# Altium schematic symbol library M283.SCHLIB: 26 symbols
Pins are listed as number, name and electrical type; pins without a type are passive.

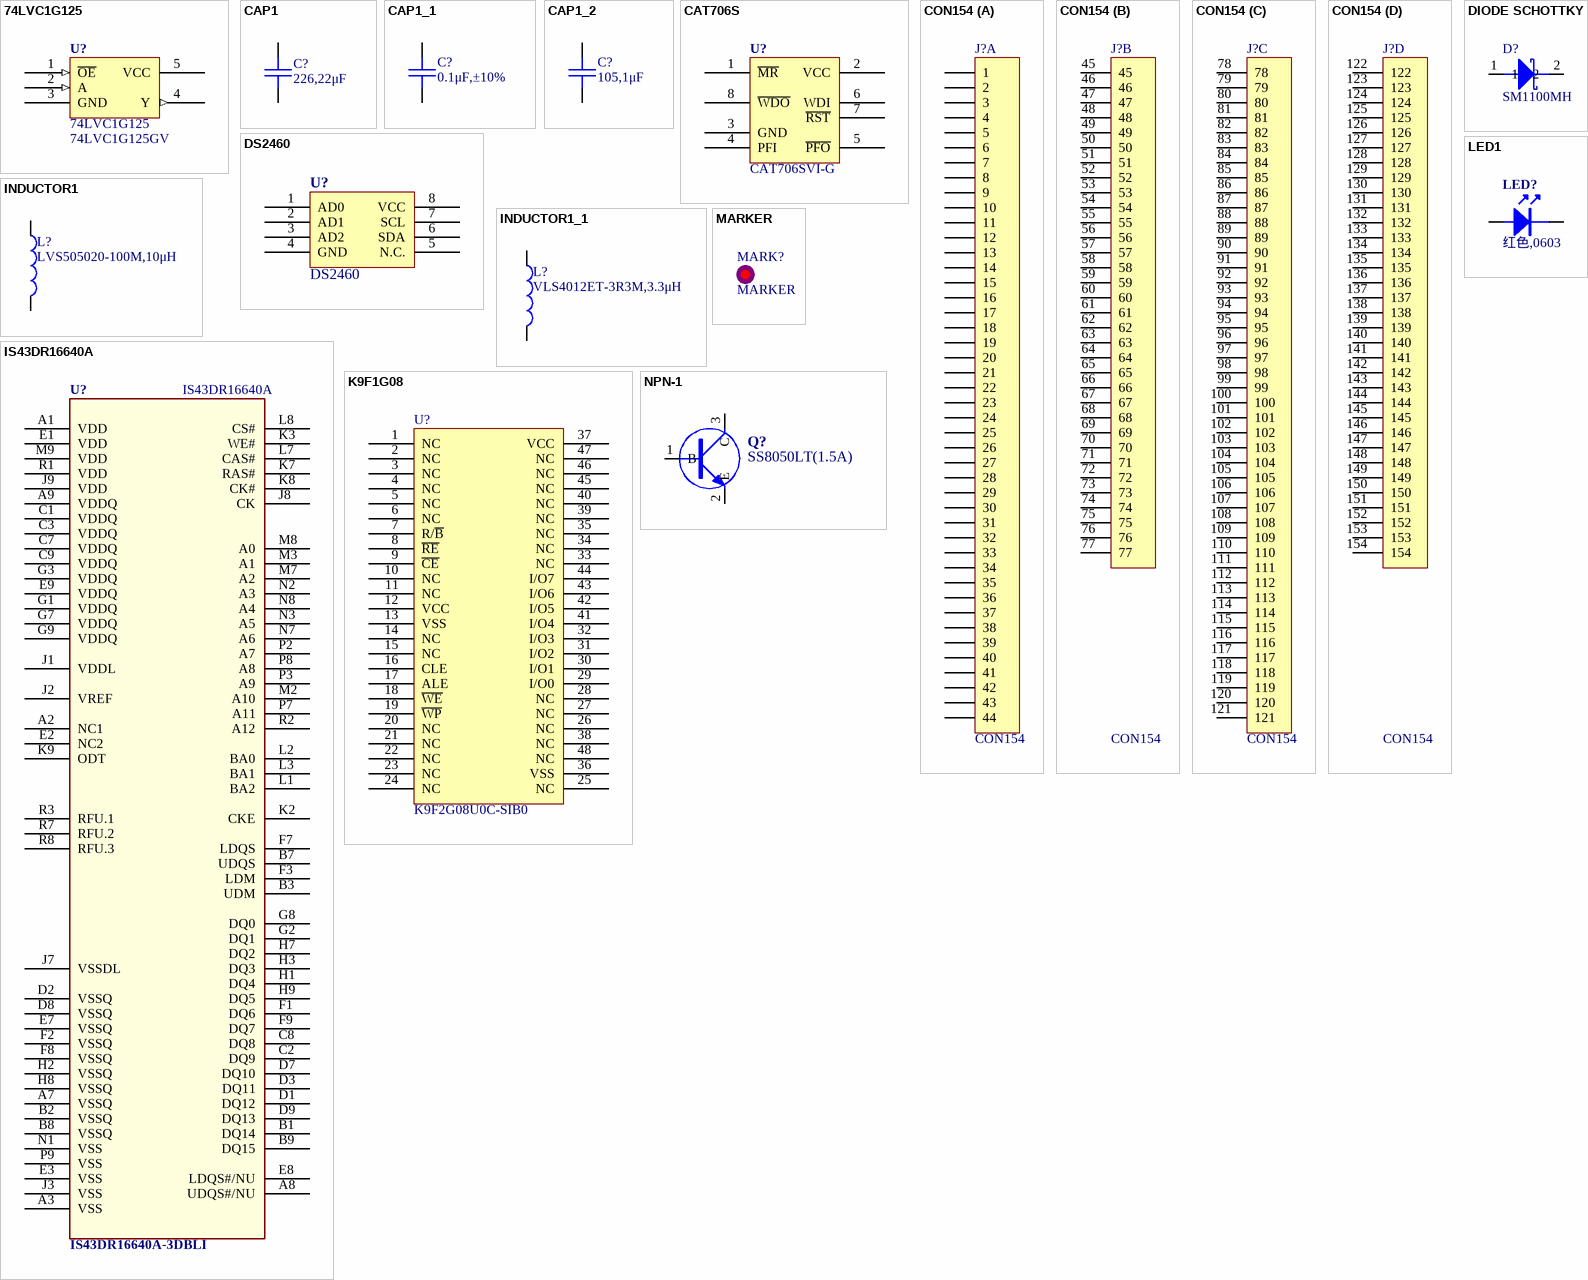
[diagram p0: symbols 74LVC1G125 to NPN-1]

## 74LVC1G125
designator U?  value 74LVC1G125GV
74LVC1G125GV,SOT-23,NXP,RoHS; 物料代码: 1.05.05.0117; 名称: IC; 设备封装名称: SOT-23-5_74LVC1G125GV; 贴片和直插: SMT; 封装: SOT-23; 厂商: NXP; RoHS: RoHS; 型号: 74LVC1G125GV; ComponentLink1Description: ErpDataInfo; ComponentLink1URL: http://erp.zlgmcu.com/ErpExt/ErpData/ListMateriel.aspx?pkey=1.05.05.0117
footprint SOT-23-5
pins: 1 ~{OE} (in), 2 A (in), 3 GND (power), 4 Y (out), 5 VCC
2 alternate drawings of the same symbol

## CAP1
designator C?, comment 226,22μF
226,22μF,±20%,6.3V,X5R,0805,RoHS; 物料代码: 1.02.02.0059; 名称: 电容; 封装: 0805; 设备封装名称: C0805_226_X5R_6.3V_20%; 贴片和直插: SMT; RoHS: RoHS; 型号: 226,22μF,±20%,6.3V,X5R; ComponentLink1Description: ErpDataInfo; ComponentLink1URL: http://erp.zlgmcu.com/ErpExt/ErpData/ListMateriel.aspx?pkey=1.02.02.0059; Value: 226,22μF
footprint 0805C
pins: 1, 2
2 alternate drawings of the same symbol

## CAP1_1
designator C?, comment 0.1μF,±10%
0.1μF,±10%,16V,X7R,0402,RoHS; 物料代码: 1.02.17.0006; 名称: 电容; 封装: 0402; 设备封装名称: C0402_0.1uF_X7R_16V_10%; 贴片和直插: SMT; RoHS: RoHS; 型号: 0.1μF,±10%,16V,X7R; ComponentLink1Description: ErpDataInfo; ComponentLink1URL: http://erp.zlgmcu.com/ErpExt/ErpData/ListMateriel.aspx?pkey=1.02.17.0006; Value: 0.1μF,±10%
footprint 0402C
pins: 1, 2
2 alternate drawings of the same symbol

## CAP1_2
designator C?, comment 105,1μF
105,1μF,±10%,16V,X7R,0603,*,RoHS; 物料代码: 1.02.01.0036; 名称: 电容; 封装: 0603; 设备封装名称: C0603_105_X7R_16V_10%; 贴片和直插: SMT; RoHS: RoHS; 型号: 105,1μF,±10%,16V,X7R; ComponentLink1Description: ErpDataInfo; ComponentLink1URL: http://erp.zlgmcu.com/ErpExt/ErpData/ListMateriel.aspx?pkey=1.02.01.0036; Value: 105,1μF
footprint 0603C
pins: 1, 2
2 alternate drawings of the same symbol

## CAT706S
designator U?  value CAT706SVI-G  (hidden comment: CAT706S)
CAT706SVI-G,SO-8,ON; 物料代码: 1.05.07.0027; 名称: IC; 设备封装名称: SO-8_CAT706SVI-G; 贴片和直插: SMT; 封装: SO-8; 厂商: ON; 型号: CAT706SVI-G; ComponentLink1Description: ErpDataInfo; ComponentLink1URL: http://erp.zlgmcu.com/ErpExt/ErpData/ListMateriel.aspx?pkey=1.05.07.0027
footprint SOIC127P600X175-8N
pins: 1 ~{MR}, 2 VCC, 3 GND, 4 PFI, 5 ~{PFO}, 6 WDI, 7 ~{RST}, 8 ~{WDO}
2 alternate drawings of the same symbol

## CON154
designator J?
Connector
footprint M283-154
part A pins: 1, 2, 3, 4, 5, 6, 7, 8, 9, 10, 11, 12, 13, 14, 15, 16, 17, 18, 19, 20, 21, 22, 23, 24, 25, 26, 27, 28, 29, 30, 31, 32, 33, 34, 35, 36, 37, 38, 39, 40, 41, 42, 43, 44
part B pins: 45, 46, 47, 48, 49, 50, 51, 52, 53, 54, 55, 56, 57, 58, 59, 60, 61, 62, 63, 64, 65, 66, 67, 68, 69, 70, 71, 72, 73, 74, 75, 76, 77
part C pins: 78, 79, 80, 81, 82, 83, 84, 85, 86, 87, 88, 89, 90, 91, 92, 93, 94, 95, 96, 97, 98, 99, 100, 101, 102, 103, 104, 105, 106, 107, 108, 109, 110, 111, 112, 113, 114, 115, 116, 117, 118, 119, 120, 121
part D pins: 122, 123, 124, 125, 126, 127, 128, 129, 130, 131, 132, 133, 134, 135, 136, 137, 138, 139, 140, 141, 142, 143, 144, 145, 146, 147, 148, 149, 150, 151, 152, 153, 154

## DIODE SCHOTTKY
designator D?  value SM1100MH  (hidden comment: DIODE SCHOTTKY)
SM1100MH,SOD-123,SECOS,RoHS; 物料代码: 1.04.07.0063; 名称: 肖特基二极管; 贴片和直插: SMT; 封装: SOD-123; 厂商: SECOS; RoHS: RoHS; 型号: SM1100MH; ComponentLink1Description: ErpDataInfo; ComponentLink1URL: http://erp.zlgmcu.com/ErpExt/ErpData/ListMateriel.aspx?pkey=1.04.07.0063
footprint SOD-123
pins: 1, 2

## DS2460
designator U?
DS2460,SO-8,Maxim,RoHS; 物料代码: 1.05.10.0117; 名称: IC; 设备封装名称: SO-8_DS2460; 贴片和直插: SMT; 封装: SO-8; 厂商: Maxim; RoHS: RoHS; 型号: DS2460; ComponentLink1Description: ErpDataInfo; ComponentLink1URL: http://erp.zlgmcu.com/ErpExt/ErpData/ListMateriel.aspx?pkey=1.05.10.0117; Value: DS2460
footprint SOIC127P600X175-8N
pins: 1 AD0, 2 AD1, 3 AD2, 4 GND, 5 N.C., 6 SDA, 7 SCL, 8 VCC
2 alternate drawings of the same symbol

## INDUCTOR1
designator L?  value LVS505020-100M,10μH  (hidden comment: INDUCTOR1)
LVS505020-100M,10μH,1.6A,SMD,奇力新,RoHS; 物料代码: 1.03.01.0159; 名称: 电感; 贴片和直插: SMT; 封装: SMD; 厂商: 奇力新; RoHS: RoHS; 型号: LVS505020-100M,10μH,1.6A; ComponentLink1Description: ErpDataInfo; ComponentLink1URL: http://erp.zlgmcu.com/ErpExt/ErpData/ListMateriel.aspx?pkey=1.03.01.0159
footprint L-5.0X5.0-LVS
pins: 1, 2
2 alternate drawings of the same symbol

## INDUCTOR1_1
designator L?, comment value VLS4012ET-3R3M,3.3μH  (hidden comment: INDUCTOR1)
VLS4012ET-3R3M,3.3μH,1.4A,SMD,TDK,RoHS; 物料代码: 1.03.01.0155; 名称: 电感; 贴片和直插: SMT; 封装: SMD; 厂商: TDK; RoHS: RoHS; 型号: VLS4012ET-3R3M,3.3μH,1.4A; ComponentLink1Description: ErpDataInfo; ComponentLink1URL: http://erp.zlgmcu.com/ErpExt/ErpData/ListMateriel.aspx?pkey=1.03.01.0155
footprint L-4.0S-VLS
pins: 1, 2
2 alternate drawings of the same symbol

## IS43DR16640A
designator U?  value IS43DR16640A-3DBLI
IS43DR16640A-3DBLI,FBGA-84,ISSI,RoHS; 物料代码: 1.05.06.0180; 名称: IC; 贴片和直插: SMT; PCB备注: 50; 封装: FBGA-84; 厂商: ISSI; RoHS: RoHS; 型号: IS43DR16640A-3DBLI; ComponentLink1Description: ErpDataInfo; ComponentLink1URL: http://erp.zlgmcu.com/ErpExt/ErpData/ListMateriel.aspx?pkey=1.05.06.0180
footprint IS43DR16640A/B
pins: A1 VDD, A2 NC1, A3 VSS (power), A7 VSSQ (power), A8 UDQS#/NU, A9 VDDQ, B1 DQ14, B2 VSSQ (power), B3 UDM, B7 UDQS, B8 VSSQ (power), B9 DQ15, C1 VDDQ, C2 DQ9, C3 VDDQ, C7 VDDQ, C8 DQ8, C9 VDDQ, D1 DQ12, D2 VSSQ (power), D3 DQ11, D7 DQ10, D8 VSSQ (power), D9 DQ13, E1 VDD, E2 NC2, E3 VSS (power), E7 VSSQ (power), E8 LDQS#/NU, E9 VDDQ, F1 DQ6, F2 VSSQ (power), F3 LDM, F7 LDQS, F8 VSSQ (power), F9 DQ7, G1 VDDQ, G2 DQ1, G3 VDDQ, G7 VDDQ, G8 DQ0, G9 VDDQ, H1 DQ4, H2 VSSQ (power), H3 DQ3, H7 DQ2, H8 VSSQ (power), H9 DQ5, J1 VDDL, J2 VREF, J3 VSS (power), J7 VSSDL (power), J8 CK, J9 VDD, K2 CKE, K3 WE#, K7 RAS#, K8 CK#, K9 ODT, L1 BA2, L2 BA0, L3 BA1, L7 CAS#, L8 CS#, M2 A10, M3 A1, M7 A2, M8 A0, M9 VDD, N1 VSS (power), N2 A3, N3 A5, N7 A6, N8 A4, P2 A7, P3 A9, P7 A11, P8 A8, P9 VSS (power), R1 VDD, R2 A12, R3 RFU.1, R7 RFU.2, R8 RFU.3

## K9F1G08
designator U?  value K9F2G08U0C-SIB0  (hidden comment: K9F1G08)
物料代码: 1.05.06.0181; 名称: IC; 规格型号: K9F2G08U0C-SIB0,TSOP-48,SAMSUNG,RoHS; 封装: TSOP-48; 厂商: SAMSUNG; 贴片和直插: SMT; PCB备注: 50; RoHS: RoHS; ComponentLink1Description: ErpDataInfo; ComponentLink1URL: http://erp.zlgmcu.com/ErpExt/ErpData/ListMateriel.aspx?pkey=1.05.06.0181
footprint SOP50P2000X120-48N
pins: 1 NC, 2 NC, 3 NC, 4 NC, 5 NC, 6 NC, 7 R/~{B}, 8 ~{RE}, 9 ~{CE}, 10 NC, 11 NC, 12 VCC, 13 VSS, 14 NC, 15 NC, 16 CLE, 17 ALE, 18 ~{WE}, 19 ~{WP}, 20 NC, 21 NC, 22 NC, 23 NC, 24 NC, 25 NC, 26 NC, 27 NC, 28 NC, 29 I/O0, 30 I/O1, 31 I/O2, 32 I/O3, 33 NC, 34 NC, 35 NC, 36 VSS, 37 VCC, 38 NC, 39 NC, 40 NC, 41 I/O4, 42 I/O5, 43 I/O6, 44 I/O7, 45 NC, 46 NC, 47 NC, 48 NC
2 alternate drawings of the same symbol

## LED1
designator LED?  value 红色,0603  (hidden comment: LED1)
红色,0603,0603,*,RoHS; 物料代码: 1.04.05.0008; 名称: 发光二极管; 封装: 0603; 设备封装名称: LED0603-RED; 贴片和直插: SMT; 器件优选方案: 优先选用; RoHS: RoHS; 型号: 红色,0603; ComponentLink1Description: ErpDataInfo; ComponentLink1URL: http://erp.zlgmcu.com/ErpExt/ErpData/ListMateriel.aspx?pkey=1.04.05.0008
footprint LED-0603
pins: 1, 2
2 alternate drawings of the same symbol

## MARKER
designator MARK?
footprint MARKER-C
footprint MARKER-S
pins: 0

## NPN-1
designator Q?  value SS8050LT(1.5A)  (hidden comment: NPN-1)
SS8050LT(1.5A),SOT-23,江苏长电,RoHS; 物料代码: 1.04.09.0001; 名称: 三极管; 设备封装名称: SOT-23_SS8050LT; 贴片和直插: SMT; 封装: SOT-23; 厂商: 江苏长电; RoHS: RoHS; 型号: SS8050LT(1.5A); ComponentLink1Description: ErpDataInfo; ComponentLink1URL: http://erp.zlgmcu.com/ErpExt/ErpData/ListMateriel.aspx?pkey=1.04.09.0001
footprint SOT-23
pins: 1 B, 2 E, 3 C
2 alternate drawings of the same symbol

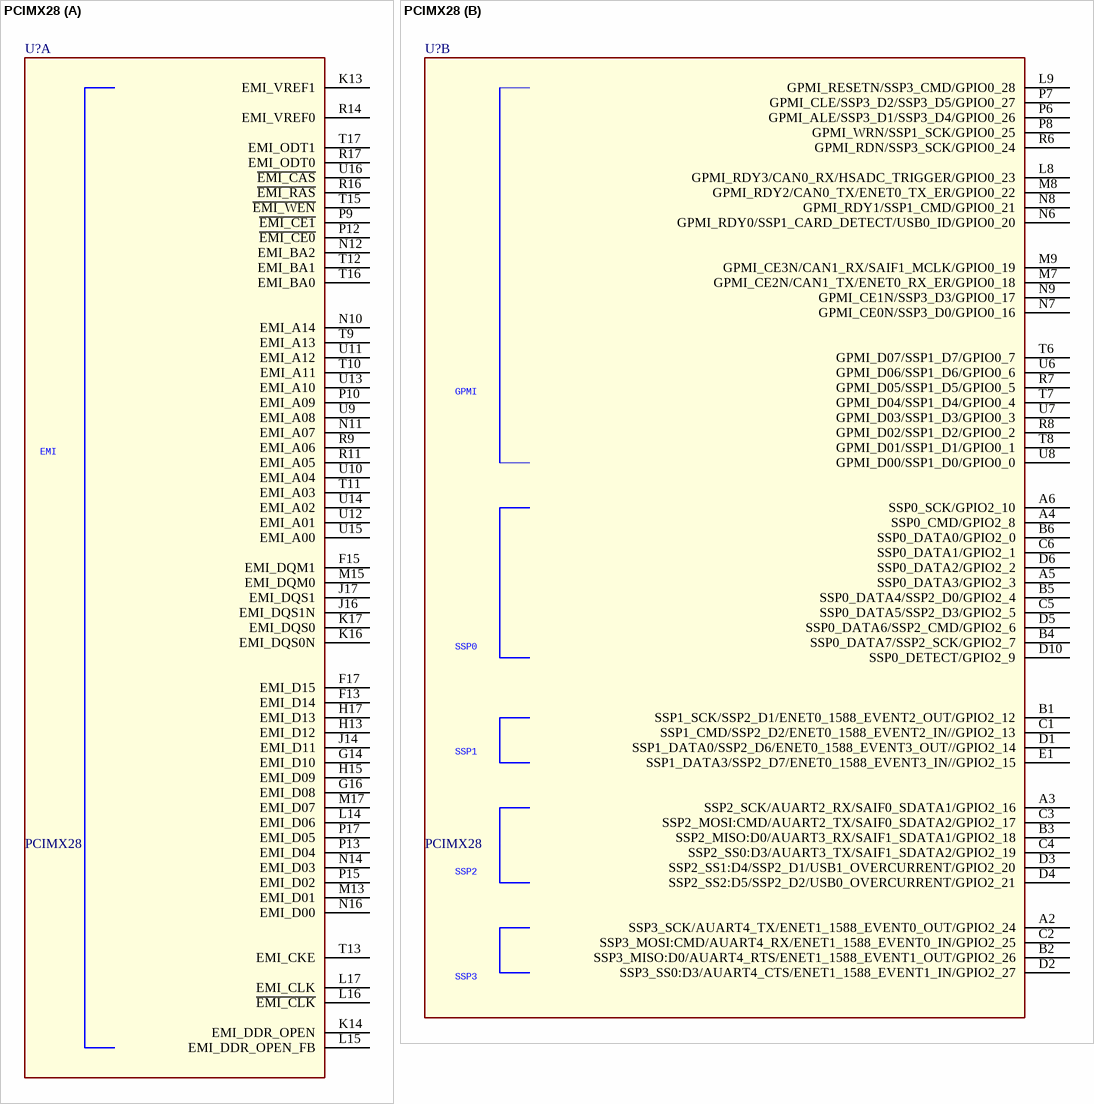
[diagram p1: symbol PCIMX28]

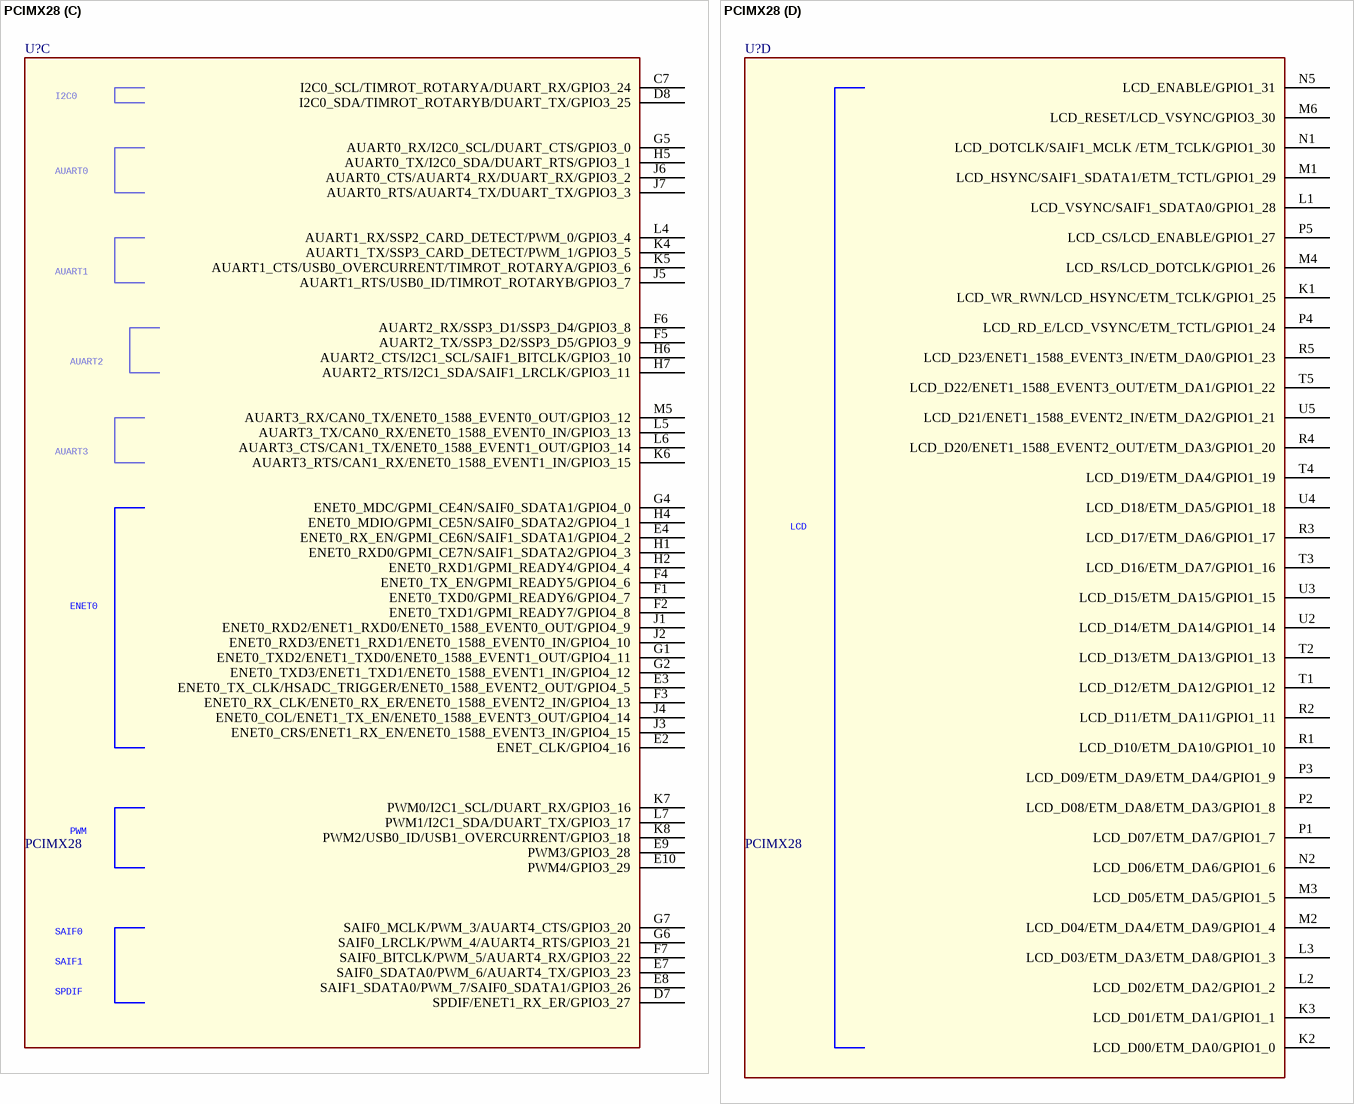
[diagram p2: symbol PCIMX28]

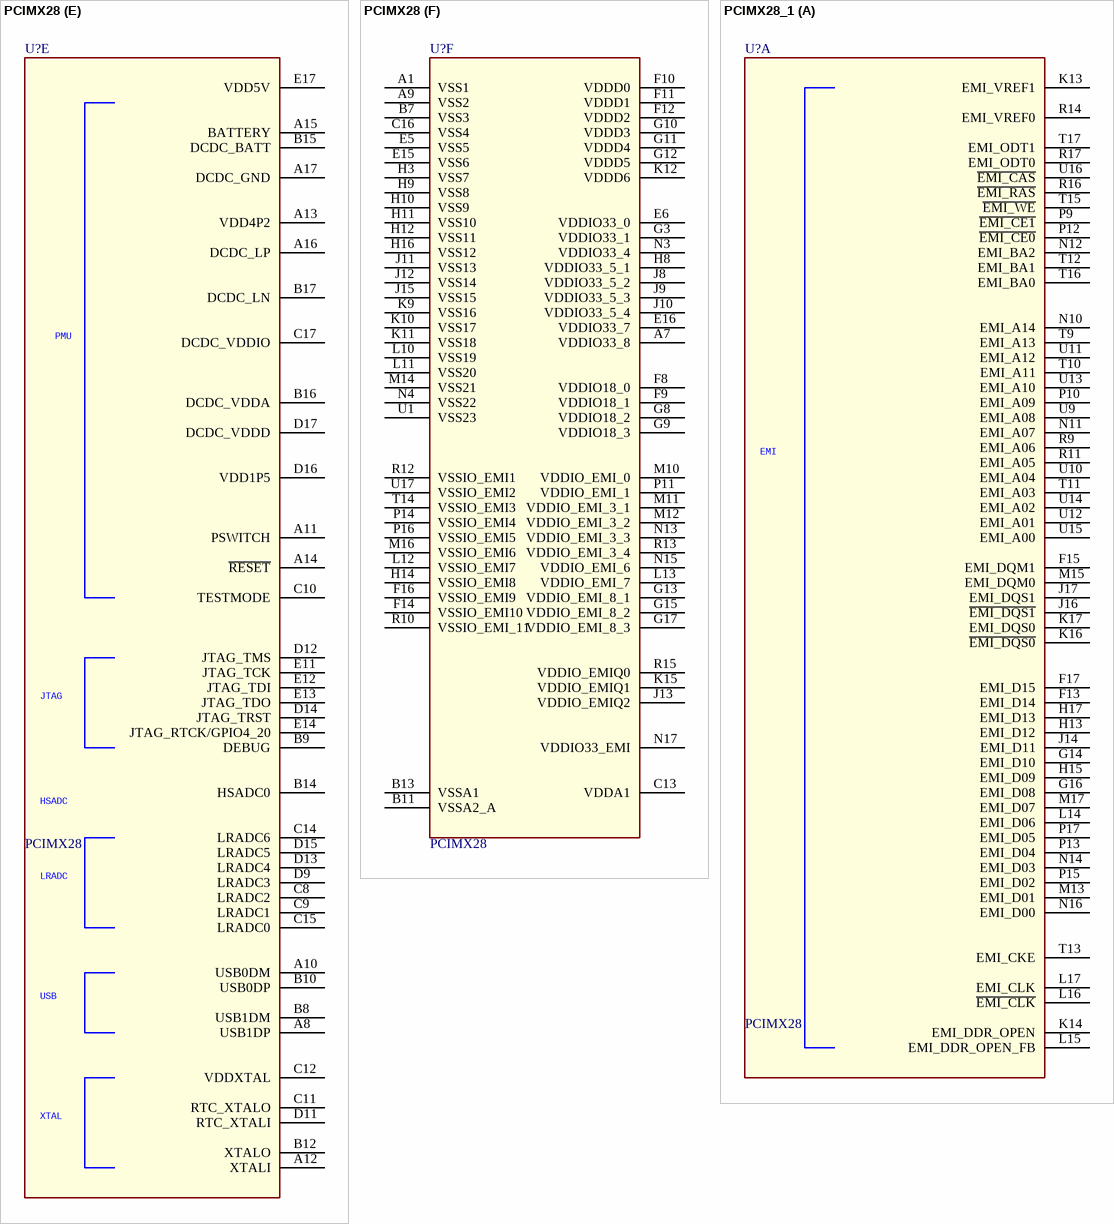
[diagram p3: symbols PCIMX28 to PCIMX28_1]

## PCIMX28
designator U?
footprint MAPBGA-289 (BGA, 81-Leads, Body 14.0x14.0mm,  Pitch 0.80mm)
part A pins: F13 EMI_D14, F15 EMI_DQM1, F17 EMI_D15, G14 EMI_D10, G16 EMI_D08, H13 EMI_D12, H15 EMI_D09, H17 EMI_D13, J14 EMI_D11, J16 EMI_DQS1N, J17 EMI_DQS1, K13 EMI_VREF1, K14 EMI_DDR_OPEN, K16 EMI_DQS0N, K17 EMI_DQS0, L14 EMI_D06, L15 EMI_DDR_OPEN_FB, L16 ~{EMI_CLK}, L17 EMI_CLK, M13 EMI_D01, M15 EMI_DQM0, M17 EMI_D07, N10 EMI_A14, N11 EMI_A07, N12 EMI_BA2, N14 EMI_D03, N16 EMI_D00, P9 ~{EMI_CE1}, P10 EMI_A09, P12 ~{EMI_CE0}, P13 EMI_D04, P15 EMI_D02, P17 EMI_D05, R9 EMI_A06, R11 EMI_A05, R14 EMI_VREF0, R16 ~{EMI_RAS}, R17 EMI_ODT0, T9 EMI_A13, T10 EMI_A11, T11 EMI_A03, T12 EMI_BA1, T13 EMI_CKE, T15 ~{EMI_WEN}, T16 EMI_BA0, T17 EMI_ODT1, U9 EMI_A08, U10 EMI_A04, U11 EMI_A12, U12 EMI_A01, U13 EMI_A10, U14 EMI_A02, U15 EMI_A00, U16 ~{EMI_CAS}
part B pins: A2 SSP3_SCK/AUART4_TX/ENET1_1588_EVENT0_OUT/GPIO2_24, A3 SSP2_SCK/AUART2_RX/SAIF0_SDATA1/GPIO2_16, A4 SSP0_CMD/GPIO2_8, A5 SSP0_DATA3/GPIO2_3, A6 SSP0_SCK/GPIO2_10, B1 SSP1_SCK/SSP2_D1/ENET0_1588_EVENT2_OUT/GPIO2_12, B2 SSP3_MISO:D0/AUART4_RTS/ENET1_1588_EVENT1_OUT/GPIO2_26, B3 SSP2_MISO:D0/AUART3_RX/SAIF1_SDATA1/GPIO2_18, B4 SSP0_DATA7/SSP2_SCK/GPIO2_7, B5 SSP0_DATA4/SSP2_D0/GPIO2_4, B6 SSP0_DATA0/GPIO2_0, C1 SSP1_CMD/SSP2_D2/ENET0_1588_EVENT2_IN//GPIO2_13, C2 SSP3_MOSI:CMD/AUART4_RX/ENET1_1588_EVENT0_IN/GPIO2_25, C3 SSP2_MOSI:CMD/AUART2_TX/SAIF0_SDATA2/GPIO2_17, C4 SSP2_SS0:D3/AUART3_TX/SAIF1_SDATA2/GPIO2_19, C5 SSP0_DATA5/SSP2_D3/GPIO2_5, C6 SSP0_DATA1/GPIO2_1, D1 SSP1_DATA0/SSP2_D6/ENET0_1588_EVENT3_OUT//GPIO2_14, D2 SSP3_SS0:D3/AUART4_CTS/ENET1_1588_EVENT1_IN/GPIO2_27, D3 SSP2_SS1:D4/SSP2_D1/USB1_OVERCURRENT/GPIO2_20, D4 SSP2_SS2:D5/SSP2_D2/USB0_OVERCURRENT/GPIO2_21, D5 SSP0_DATA6/SSP2_CMD/GPIO2_6, D6 SSP0_DATA2/GPIO2_2, D10 SSP0_DETECT/GPIO2_9, E1 SSP1_DATA3/SSP2_D7/ENET0_1588_EVENT3_IN//GPIO2_15, L8 GPMI_RDY3/CAN0_RX/HSADC_TRIGGER/GPIO0_23, L9 GPMI_RESETN/SSP3_CMD/GPIO0_28, M7 GPMI_CE2N/CAN1_TX/ENET0_RX_ER/GPIO0_18, M8 GPMI_RDY2/CAN0_TX/ENET0_TX_ER/GPIO0_22, M9 GPMI_CE3N/CAN1_RX/SAIF1_MCLK/GPIO0_19, N6 GPMI_RDY0/SSP1_CARD_DETECT/USB0_ID/GPIO0_20, N7 GPMI_CE0N/SSP3_D0/GPIO0_16, N8 GPMI_RDY1/SSP1_CMD/GPIO0_21, N9 GPMI_CE1N/SSP3_D3/GPIO0_17, P6 GPMI_ALE/SSP3_D1/SSP3_D4/GPIO0_26, P7 GPMI_CLE/SSP3_D2/SSP3_D5/GPIO0_27, P8 GPMI_WRN/SSP1_SCK/GPIO0_25, R6 GPMI_RDN/SSP3_SCK/GPIO0_24, R7 GPMI_D05/SSP1_D5/GPIO0_5, R8 GPMI_D02/SSP1_D2/GPIO0_2, T6 GPMI_D07/SSP1_D7/GPIO0_7, T7 GPMI_D04/SSP1_D4/GPIO0_4, T8 GPMI_D01/SSP1_D1/GPIO0_1, U6 GPMI_D06/SSP1_D6/GPIO0_6, U7 GPMI_D03/SSP1_D3/GPIO0_3, U8 GPMI_D00/SSP1_D0/GPIO0_0
part C pins: C7 I2C0_SCL/TIMROT_ROTARYA/DUART_RX/GPIO3_24, D7 SPDIF/ENET1_RX_ER/GPIO3_27, D8 I2C0_SDA/TIMROT_ROTARYB/DUART_TX/GPIO3_25, E2 ENET_CLK/GPIO4_16, E3 ENET0_TX_CLK/HSADC_TRIGGER/ENET0_1588_EVENT2_OUT/GPIO4_5, E4 ENET0_RX_EN/GPMI_CE6N/SAIF1_SDATA1/GPIO4_2, E7 SAIF0_SDATA0/PWM_6/AUART4_TX/GPIO3_23, E8 SAIF1_SDATA0/PWM_7/SAIF0_SDATA1/GPIO3_26, E9 PWM3/GPIO3_28, E10 PWM4/GPIO3_29, F1 ENET0_TXD0/GPMI_READY6/GPIO4_7, F2 ENET0_TXD1/GPMI_READY7/GPIO4_8, F3 ENET0_RX_CLK/ENET0_RX_ER/ENET0_1588_EVENT2_IN/GPIO4_13, F4 ENET0_TX_EN/GPMI_READY5/GPIO4_6, F5 AUART2_TX/SSP3_D2/SSP3_D5/GPIO3_9, F6 AUART2_RX/SSP3_D1/SSP3_D4/GPIO3_8, F7 SAIF0_BITCLK/PWM_5/AUART4_RX/GPIO3_22, G1 ENET0_TXD2/ENET1_TXD0/ENET0_1588_EVENT1_OUT/GPIO4_11, G2 ENET0_TXD3/ENET1_TXD1/ENET0_1588_EVENT1_IN/GPIO4_12, G4 ENET0_MDC/GPMI_CE4N/SAIF0_SDATA1/GPIO4_0, G5 AUART0_RX/I2C0_SCL/DUART_CTS/GPIO3_0, G6 SAIF0_LRCLK/PWM_4/AUART4_RTS/GPIO3_21, G7 SAIF0_MCLK/PWM_3/AUART4_CTS/GPIO3_20, H1 ENET0_RXD0/GPMI_CE7N/SAIF1_SDATA2/GPIO4_3, H2 ENET0_RXD1/GPMI_READY4/GPIO4_4, H4 ENET0_MDIO/GPMI_CE5N/SAIF0_SDATA2/GPIO4_1, H5 AUART0_TX/I2C0_SDA/DUART_RTS/GPIO3_1, H6 AUART2_CTS/I2C1_SCL/SAIF1_BITCLK/GPIO3_10, H7 AUART2_RTS/I2C1_SDA/SAIF1_LRCLK/GPIO3_11, J1 ENET0_RXD2/ENET1_RXD0/ENET0_1588_EVENT0_OUT/GPIO4_9, J2 ENET0_RXD3/ENET1_RXD1/ENET0_1588_EVENT0_IN/GPIO4_10, J3 ENET0_CRS/ENET1_RX_EN/ENET0_1588_EVENT3_IN/GPIO4_15, J4 ENET0_COL/ENET1_TX_EN/ENET0_1588_EVENT3_OUT/GPIO4_14, J5 AUART1_RTS/USB0_ID/TIMROT_ROTARYB/GPIO3_7, J6 AUART0_CTS/AUART4_RX/DUART_RX/GPIO3_2, J7 AUART0_RTS/AUART4_TX/DUART_TX/GPIO3_3, K4 AUART1_TX/SSP3_CARD_DETECT/PWM_1/GPIO3_5, K5 AUART1_CTS/USB0_OVERCURRENT/TIMROT_ROTARYA/GPIO3_6, K6 AUART3_RTS/CAN1_RX/ENET0_1588_EVENT1_IN/GPIO3_15, K7 PWM0/I2C1_SCL/DUART_RX/GPIO3_16, K8 PWM2/USB0_ID/USB1_OVERCURRENT/GPIO3_18, L4 AUART1_RX/SSP2_CARD_DETECT/PWM_0/GPIO3_4, L5 AUART3_TX/CAN0_RX/ENET0_1588_EVENT0_IN/GPIO3_13, L6 AUART3_CTS/CAN1_TX/ENET0_1588_EVENT1_OUT/GPIO3_14, L7 PWM1/I2C1_SDA/DUART_TX/GPIO3_17, M5 AUART3_RX/CAN0_TX/ENET0_1588_EVENT0_OUT/GPIO3_12
part D pins: K1 LCD_WR_RWN/LCD_HSYNC/ETM_TCLK/GPIO1_25, K2 LCD_D00/ETM_DA0/GPIO1_0, K3 LCD_D01/ETM_DA1/GPIO1_1, L1 LCD_VSYNC/SAIF1_SDATA0/GPIO1_28, L2 LCD_D02/ETM_DA2/GPIO1_2, L3 LCD_D03/ETM_DA3/ETM_DA8/GPIO1_3, M1 LCD_HSYNC/SAIF1_SDATA1/ETM_TCTL/GPIO1_29, M2 LCD_D04/ETM_DA4/ETM_DA9/GPIO1_4, M3 LCD_D05/ETM_DA5/GPIO1_5, M4 LCD_RS/LCD_DOTCLK/GPIO1_26, M6 LCD_RESET/LCD_VSYNC/GPIO3_30, N1 LCD_DOTCLK/SAIF1_MCLK /ETM_TCLK/GPIO1_30, N2 LCD_D06/ETM_DA6/GPIO1_6, N5 LCD_ENABLE/GPIO1_31, P1 LCD_D07/ETM_DA7/GPIO1_7, P2 LCD_D08/ETM_DA8/ETM_DA3/GPIO1_8, P3 LCD_D09/ETM_DA9/ETM_DA4/GPIO1_9, P4 LCD_RD_E/LCD_VSYNC/ETM_TCTL/GPIO1_24, P5 LCD_CS/LCD_ENABLE/GPIO1_27, R1 LCD_D10/ETM_DA10/GPIO1_10, R2 LCD_D11/ETM_DA11/GPIO1_11, R3 LCD_D17/ETM_DA6/GPIO1_17, R4 LCD_D20/ENET1_1588_EVENT2_OUT/ETM_DA3/GPIO1_20, R5 LCD_D23/ENET1_1588_EVENT3_IN/ETM_DA0/GPIO1_23, T1 LCD_D12/ETM_DA12/GPIO1_12, T2 LCD_D13/ETM_DA13/GPIO1_13, T3 LCD_D16/ETM_DA7/GPIO1_16, T4 LCD_D19/ETM_DA4/GPIO1_19, T5 LCD_D22/ENET1_1588_EVENT3_OUT/ETM_DA1/GPIO1_22, U2 LCD_D14/ETM_DA14/GPIO1_14, U3 LCD_D15/ETM_DA15/GPIO1_15, U4 LCD_D18/ETM_DA5/GPIO1_18, U5 LCD_D21/ENET1_1588_EVENT2_IN/ETM_DA2/GPIO1_21
part E pins: A8 USB1DP, A10 USB0DM, A11 PSWITCH, A12 XTALI, A13 VDD4P2, A14 ~{RESET}, A15 BATTERY, A16 DCDC_LP, A17 DCDC_GND, B8 USB1DM, B9 DEBUG, B10 USB0DP, B12 XTALO, B14 HSADC0, B15 DCDC_BATT, B16 DCDC_VDDA, B17 DCDC_LN, C8 LRADC2, C9 LRADC1, C10 TESTMODE, C11 RTC_XTALO, C12 VDDXTAL, C14 LRADC6, C15 LRADC0, C17 DCDC_VDDIO, D9 LRADC3, D11 RTC_XTALI, D12 JTAG_TMS, D13 LRADC4, D14 JTAG_TRST, D15 LRADC5, D16 VDD1P5, D17 DCDC_VDDD, E11 JTAG_TCK, E12 JTAG_TDI, E13 JTAG_TDO, E14 JTAG_RTCK/GPIO4_20, E17 VDD5V
part F pins: A1 VSS1, A7 VDDIO33_8, A9 VSS2, B7 VSS3, B11 VSSA2_A, B13 VSSA1, C13 VDDA1, C16 VSS4, E5 VSS5, E6 VDDIO33_0, E15 VSS6, E16 VDDIO33_7, F8 VDDIO18_0, F9 VDDIO18_1, F10 VDDD0, F11 VDDD1, F12 VDDD2, F14 VSSIO_EMI10, F16 VSSIO_EMI9, G3 VDDIO33_1, G8 VDDIO18_2, G9 VDDIO18_3, G10 VDDD3, G11 VDDD4, G12 VDDD5, G13 VDDIO_EMI_8_1, G15 VDDIO_EMI_8_2, G17 VDDIO_EMI_8_3, H3 VSS7, H8 VDDIO33_5_1, H9 VSS8, H10 VSS9, H11 VSS10, H12 VSS11, H14 VSSIO_EMI8, H16 VSS12, J8 VDDIO33_5_2, J9 VDDIO33_5_3, J10 VDDIO33_5_4, J11 VSS13, J12 VSS14, J13 VDDIO_EMIQ2, J15 VSS15, K9 VSS16, K10 VSS17, K11 VSS18, K12 VDDD6, K15 VDDIO_EMIQ1, L10 VSS19, L11 VSS20, L12 VSSIO_EMI7, L13 VDDIO_EMI_7, M10 VDDIO_EMI_0, M11 VDDIO_EMI_3_1, M12 VDDIO_EMI_3_2, M14 VSS21, M16 VSSIO_EMI6, N3 VDDIO33_4, N4 VSS22, N13 VDDIO_EMI_3_3, N15 VDDIO_EMI_6, N17 VDDIO33_EMI, P11 VDDIO_EMI_1, P14 VSSIO_EMI4, P16 VSSIO_EMI5, R10 VSSIO_EMI_11, R12 VSSIO_EMI1, R13 VDDIO_EMI_3_4, R15 VDDIO_EMIQ0, T14 VSSIO_EMI3, U1 VSS23, U17 VSSIO_EMI2
part A text: EMI
part B text: GPMI; SSP0; SSP1; SSP2; SSP3
part C text: I2C0; AUART0; AUART1; AUART2; AUART3; ENET0; PWM; SAIF0; SAIF1; SPDIF
part D text: LCD
part E text: PMU; JTAG; HSADC; LRADC; USB; XTAL

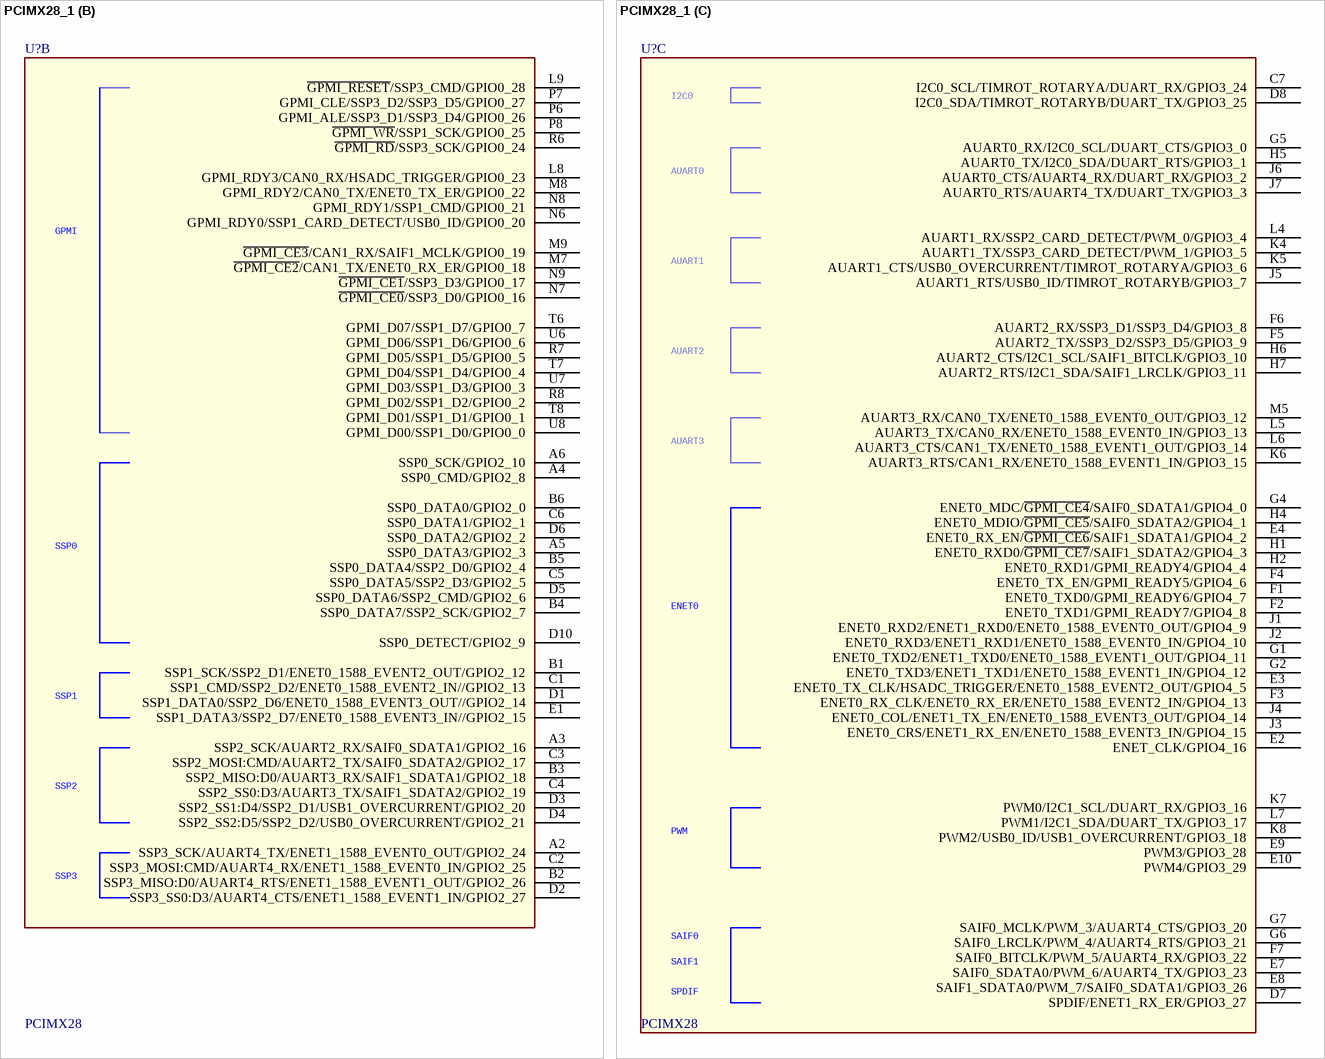
[diagram p4: symbol PCIMX28_1]

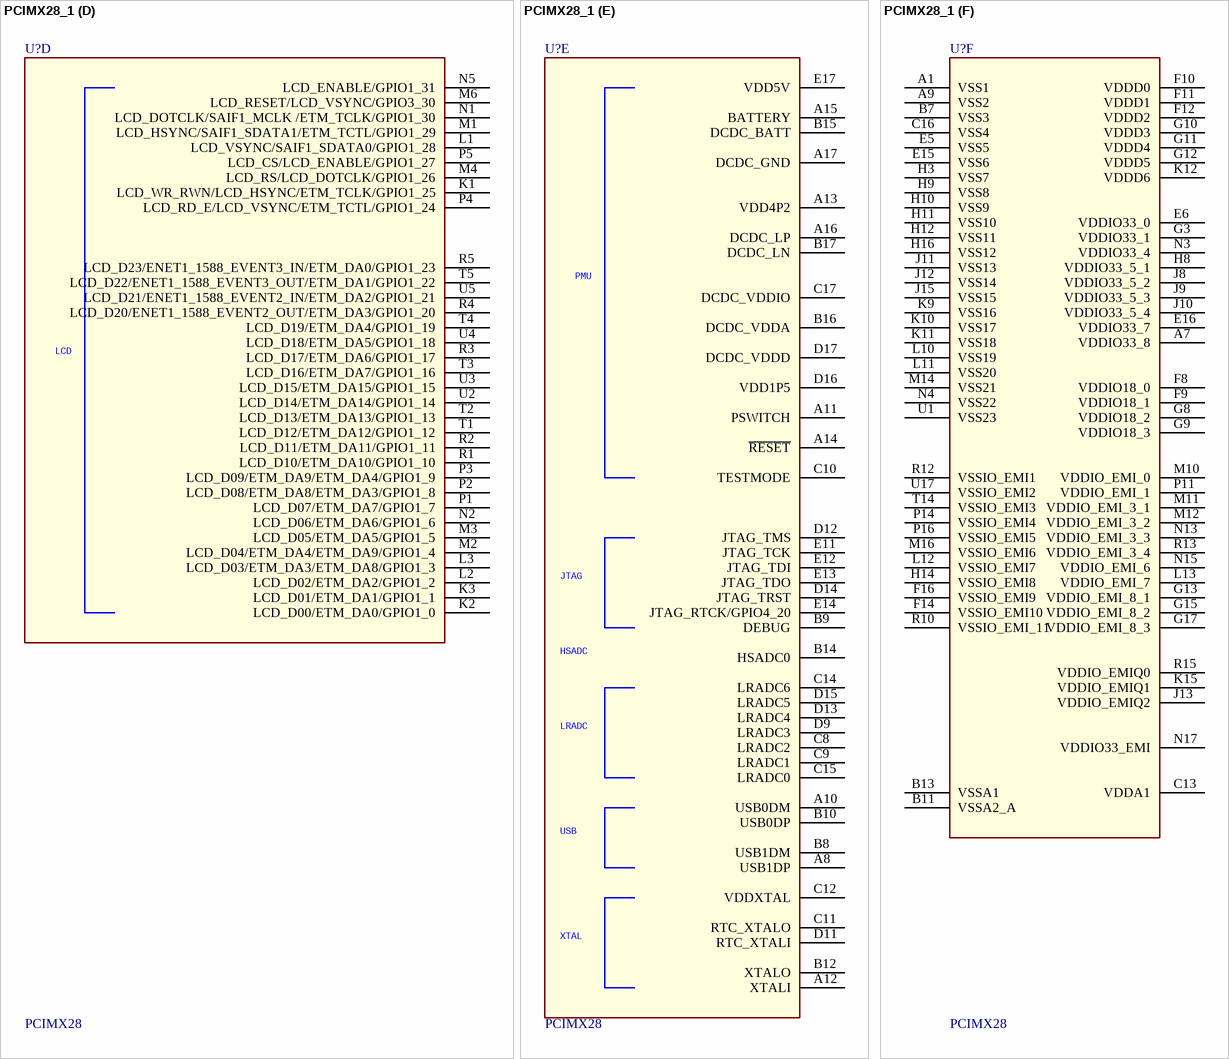
[diagram p5: symbol PCIMX28_1]

## PCIMX28_1
designator U?, comment PCIMX28
footprint MAPBGA-289 (BGA, 81-Leads, Body 14.0x14.0mm,  Pitch 0.80mm)
part A pins: F13 EMI_D14, F15 EMI_DQM1, F17 EMI_D15, G14 EMI_D10, G16 EMI_D08, H13 EMI_D12, H15 EMI_D09, H17 EMI_D13, J14 EMI_D11, J16 ~{EMI_DQS1}, J17 EMI_DQS1, K13 EMI_VREF1, K14 EMI_DDR_OPEN, K16 ~{EMI_DQS0}, K17 EMI_DQS0, L14 EMI_D06, L15 EMI_DDR_OPEN_FB, L16 ~{EMI_CLK}, L17 EMI_CLK, M13 EMI_D01, M15 EMI_DQM0, M17 EMI_D07, N10 EMI_A14, N11 EMI_A07, N12 EMI_BA2, N14 EMI_D03, N16 EMI_D00, P9 ~{EMI_CE1}, P10 EMI_A09, P12 ~{EMI_CE0}, P13 EMI_D04, P15 EMI_D02, P17 EMI_D05, R9 EMI_A06, R11 EMI_A05, R14 EMI_VREF0, R16 ~{EMI_RAS}, R17 EMI_ODT0, T9 EMI_A13, T10 EMI_A11, T11 EMI_A03, T12 EMI_BA1, T13 EMI_CKE, T15 ~{EMI_WE}, T16 EMI_BA0, T17 EMI_ODT1, U9 EMI_A08, U10 EMI_A04, U11 EMI_A12, U12 EMI_A01, U13 EMI_A10, U14 EMI_A02, U15 EMI_A00, U16 ~{EMI_CAS}
part B pins: A2 SSP3_SCK/AUART4_TX/ENET1_1588_EVENT0_OUT/GPIO2_24, A3 SSP2_SCK/AUART2_RX/SAIF0_SDATA1/GPIO2_16, A4 SSP0_CMD/GPIO2_8, A5 SSP0_DATA3/GPIO2_3, A6 SSP0_SCK/GPIO2_10, B1 SSP1_SCK/SSP2_D1/ENET0_1588_EVENT2_OUT/GPIO2_12, B2 SSP3_MISO:D0/AUART4_RTS/ENET1_1588_EVENT1_OUT/GPIO2_26, B3 SSP2_MISO:D0/AUART3_RX/SAIF1_SDATA1/GPIO2_18, B4 SSP0_DATA7/SSP2_SCK/GPIO2_7, B5 SSP0_DATA4/SSP2_D0/GPIO2_4, B6 SSP0_DATA0/GPIO2_0, C1 SSP1_CMD/SSP2_D2/ENET0_1588_EVENT2_IN//GPIO2_13, C2 SSP3_MOSI:CMD/AUART4_RX/ENET1_1588_EVENT0_IN/GPIO2_25, C3 SSP2_MOSI:CMD/AUART2_TX/SAIF0_SDATA2/GPIO2_17, C4 SSP2_SS0:D3/AUART3_TX/SAIF1_SDATA2/GPIO2_19, C5 SSP0_DATA5/SSP2_D3/GPIO2_5, C6 SSP0_DATA1/GPIO2_1, D1 SSP1_DATA0/SSP2_D6/ENET0_1588_EVENT3_OUT//GPIO2_14, D2 SSP3_SS0:D3/AUART4_CTS/ENET1_1588_EVENT1_IN/GPIO2_27, D3 SSP2_SS1:D4/SSP2_D1/USB1_OVERCURRENT/GPIO2_20, D4 SSP2_SS2:D5/SSP2_D2/USB0_OVERCURRENT/GPIO2_21, D5 SSP0_DATA6/SSP2_CMD/GPIO2_6, D6 SSP0_DATA2/GPIO2_2, D10 SSP0_DETECT/GPIO2_9, E1 SSP1_DATA3/SSP2_D7/ENET0_1588_EVENT3_IN//GPIO2_15, L8 GPMI_RDY3/CAN0_RX/HSADC_TRIGGER/GPIO0_23, L9 ~{GPMI_RESET}/SSP3_CMD/GPIO0_28, M7 ~{GPMI_CE2}/CAN1_TX/ENET0_RX_ER/GPIO0_18, M8 GPMI_RDY2/CAN0_TX/ENET0_TX_ER/GPIO0_22, M9 ~{GPMI_CE3}/CAN1_RX/SAIF1_MCLK/GPIO0_19, N6 GPMI_RDY0/SSP1_CARD_DETECT/USB0_ID/GPIO0_20, N7 ~{GPMI_CE0}/SSP3_D0/GPIO0_16, N8 GPMI_RDY1/SSP1_CMD/GPIO0_21, N9 ~{GPMI_CE1}/SSP3_D3/GPIO0_17, P6 GPMI_ALE/SSP3_D1/SSP3_D4/GPIO0_26, P7 GPMI_CLE/SSP3_D2/SSP3_D5/GPIO0_27, P8 ~{GPMI_WR}/SSP1_SCK/GPIO0_25, R6 ~{GPMI_RD}/SSP3_SCK/GPIO0_24, R7 GPMI_D05/SSP1_D5/GPIO0_5, R8 GPMI_D02/SSP1_D2/GPIO0_2, T6 GPMI_D07/SSP1_D7/GPIO0_7, T7 GPMI_D04/SSP1_D4/GPIO0_4, T8 GPMI_D01/SSP1_D1/GPIO0_1, U6 GPMI_D06/SSP1_D6/GPIO0_6, U7 GPMI_D03/SSP1_D3/GPIO0_3, U8 GPMI_D00/SSP1_D0/GPIO0_0
part C pins: C7 I2C0_SCL/TIMROT_ROTARYA/DUART_RX/GPIO3_24, D7 SPDIF/ENET1_RX_ER/GPIO3_27, D8 I2C0_SDA/TIMROT_ROTARYB/DUART_TX/GPIO3_25, E2 ENET_CLK/GPIO4_16, E3 ENET0_TX_CLK/HSADC_TRIGGER/ENET0_1588_EVENT2_OUT/GPIO4_5, E4 ENET0_RX_EN/~{GPMI_CE6}/SAIF1_SDATA1/GPIO4_2, E7 SAIF0_SDATA0/PWM_6/AUART4_TX/GPIO3_23, E8 SAIF1_SDATA0/PWM_7/SAIF0_SDATA1/GPIO3_26, E9 PWM3/GPIO3_28, E10 PWM4/GPIO3_29, F1 ENET0_TXD0/GPMI_READY6/GPIO4_7, F2 ENET0_TXD1/GPMI_READY7/GPIO4_8, F3 ENET0_RX_CLK/ENET0_RX_ER/ENET0_1588_EVENT2_IN/GPIO4_13, F4 ENET0_TX_EN/GPMI_READY5/GPIO4_6, F5 AUART2_TX/SSP3_D2/SSP3_D5/GPIO3_9, F6 AUART2_RX/SSP3_D1/SSP3_D4/GPIO3_8, F7 SAIF0_BITCLK/PWM_5/AUART4_RX/GPIO3_22, G1 ENET0_TXD2/ENET1_TXD0/ENET0_1588_EVENT1_OUT/GPIO4_11, G2 ENET0_TXD3/ENET1_TXD1/ENET0_1588_EVENT1_IN/GPIO4_12, G4 ENET0_MDC/~{GPMI_CE4}/SAIF0_SDATA1/GPIO4_0, G5 AUART0_RX/I2C0_SCL/DUART_CTS/GPIO3_0, G6 SAIF0_LRCLK/PWM_4/AUART4_RTS/GPIO3_21, G7 SAIF0_MCLK/PWM_3/AUART4_CTS/GPIO3_20, H1 ENET0_RXD0/~{GPMI_CE7}/SAIF1_SDATA2/GPIO4_3, H2 ENET0_RXD1/GPMI_READY4/GPIO4_4, H4 ENET0_MDIO/~{GPMI_CE5}/SAIF0_SDATA2/GPIO4_1, H5 AUART0_TX/I2C0_SDA/DUART_RTS/GPIO3_1, H6 AUART2_CTS/I2C1_SCL/SAIF1_BITCLK/GPIO3_10, H7 AUART2_RTS/I2C1_SDA/SAIF1_LRCLK/GPIO3_11, J1 ENET0_RXD2/ENET1_RXD0/ENET0_1588_EVENT0_OUT/GPIO4_9, J2 ENET0_RXD3/ENET1_RXD1/ENET0_1588_EVENT0_IN/GPIO4_10, J3 ENET0_CRS/ENET1_RX_EN/ENET0_1588_EVENT3_IN/GPIO4_15, J4 ENET0_COL/ENET1_TX_EN/ENET0_1588_EVENT3_OUT/GPIO4_14, J5 AUART1_RTS/USB0_ID/TIMROT_ROTARYB/GPIO3_7, J6 AUART0_CTS/AUART4_RX/DUART_RX/GPIO3_2, J7 AUART0_RTS/AUART4_TX/DUART_TX/GPIO3_3, K4 AUART1_TX/SSP3_CARD_DETECT/PWM_1/GPIO3_5, K5 AUART1_CTS/USB0_OVERCURRENT/TIMROT_ROTARYA/GPIO3_6, K6 AUART3_RTS/CAN1_RX/ENET0_1588_EVENT1_IN/GPIO3_15, K7 PWM0/I2C1_SCL/DUART_RX/GPIO3_16, K8 PWM2/USB0_ID/USB1_OVERCURRENT/GPIO3_18, L4 AUART1_RX/SSP2_CARD_DETECT/PWM_0/GPIO3_4, L5 AUART3_TX/CAN0_RX/ENET0_1588_EVENT0_IN/GPIO3_13, L6 AUART3_CTS/CAN1_TX/ENET0_1588_EVENT1_OUT/GPIO3_14, L7 PWM1/I2C1_SDA/DUART_TX/GPIO3_17, M5 AUART3_RX/CAN0_TX/ENET0_1588_EVENT0_OUT/GPIO3_12
part D pins: K1 LCD_WR_RWN/LCD_HSYNC/ETM_TCLK/GPIO1_25, K2 LCD_D00/ETM_DA0/GPIO1_0, K3 LCD_D01/ETM_DA1/GPIO1_1, L1 LCD_VSYNC/SAIF1_SDATA0/GPIO1_28, L2 LCD_D02/ETM_DA2/GPIO1_2, L3 LCD_D03/ETM_DA3/ETM_DA8/GPIO1_3, M1 LCD_HSYNC/SAIF1_SDATA1/ETM_TCTL/GPIO1_29, M2 LCD_D04/ETM_DA4/ETM_DA9/GPIO1_4, M3 LCD_D05/ETM_DA5/GPIO1_5, M4 LCD_RS/LCD_DOTCLK/GPIO1_26, M6 LCD_RESET/LCD_VSYNC/GPIO3_30, N1 LCD_DOTCLK/SAIF1_MCLK /ETM_TCLK/GPIO1_30, N2 LCD_D06/ETM_DA6/GPIO1_6, N5 LCD_ENABLE/GPIO1_31, P1 LCD_D07/ETM_DA7/GPIO1_7, P2 LCD_D08/ETM_DA8/ETM_DA3/GPIO1_8, P3 LCD_D09/ETM_DA9/ETM_DA4/GPIO1_9, P4 LCD_RD_E/LCD_VSYNC/ETM_TCTL/GPIO1_24, P5 LCD_CS/LCD_ENABLE/GPIO1_27, R1 LCD_D10/ETM_DA10/GPIO1_10, R2 LCD_D11/ETM_DA11/GPIO1_11, R3 LCD_D17/ETM_DA6/GPIO1_17, R4 LCD_D20/ENET1_1588_EVENT2_OUT/ETM_DA3/GPIO1_20, R5 LCD_D23/ENET1_1588_EVENT3_IN/ETM_DA0/GPIO1_23, T1 LCD_D12/ETM_DA12/GPIO1_12, T2 LCD_D13/ETM_DA13/GPIO1_13, T3 LCD_D16/ETM_DA7/GPIO1_16, T4 LCD_D19/ETM_DA4/GPIO1_19, T5 LCD_D22/ENET1_1588_EVENT3_OUT/ETM_DA1/GPIO1_22, U2 LCD_D14/ETM_DA14/GPIO1_14, U3 LCD_D15/ETM_DA15/GPIO1_15, U4 LCD_D18/ETM_DA5/GPIO1_18, U5 LCD_D21/ENET1_1588_EVENT2_IN/ETM_DA2/GPIO1_21
part E pins: A8 USB1DP, A10 USB0DM, A11 PSWITCH, A12 XTALI, A13 VDD4P2, A14 ~{RESET}, A15 BATTERY, A16 DCDC_LP, A17 DCDC_GND, B8 USB1DM, B9 DEBUG, B10 USB0DP, B12 XTALO, B14 HSADC0, B15 DCDC_BATT, B16 DCDC_VDDA, B17 DCDC_LN, C8 LRADC2, C9 LRADC1, C10 TESTMODE, C11 RTC_XTALO, C12 VDDXTAL, C14 LRADC6, C15 LRADC0, C17 DCDC_VDDIO, D9 LRADC3, D11 RTC_XTALI, D12 JTAG_TMS, D13 LRADC4, D14 JTAG_TRST, D15 LRADC5, D16 VDD1P5, D17 DCDC_VDDD, E11 JTAG_TCK, E12 JTAG_TDI, E13 JTAG_TDO, E14 JTAG_RTCK/GPIO4_20, E17 VDD5V
part F pins: A1 VSS1, A7 VDDIO33_8, A9 VSS2, B7 VSS3, B11 VSSA2_A, B13 VSSA1, C13 VDDA1, C16 VSS4, E5 VSS5, E6 VDDIO33_0, E15 VSS6, E16 VDDIO33_7, F8 VDDIO18_0, F9 VDDIO18_1, F10 VDDD0, F11 VDDD1, F12 VDDD2, F14 VSSIO_EMI10, F16 VSSIO_EMI9, G3 VDDIO33_1, G8 VDDIO18_2, G9 VDDIO18_3, G10 VDDD3, G11 VDDD4, G12 VDDD5, G13 VDDIO_EMI_8_1, G15 VDDIO_EMI_8_2, G17 VDDIO_EMI_8_3, H3 VSS7, H8 VDDIO33_5_1, H9 VSS8, H10 VSS9, H11 VSS10, H12 VSS11, H14 VSSIO_EMI8, H16 VSS12, J8 VDDIO33_5_2, J9 VDDIO33_5_3, J10 VDDIO33_5_4, J11 VSS13, J12 VSS14, J13 VDDIO_EMIQ2, J15 VSS15, K9 VSS16, K10 VSS17, K11 VSS18, K12 VDDD6, K15 VDDIO_EMIQ1, L10 VSS19, L11 VSS20, L12 VSSIO_EMI7, L13 VDDIO_EMI_7, M10 VDDIO_EMI_0, M11 VDDIO_EMI_3_1, M12 VDDIO_EMI_3_2, M14 VSS21, M16 VSSIO_EMI6, N3 VDDIO33_4, N4 VSS22, N13 VDDIO_EMI_3_3, N15 VDDIO_EMI_6, N17 VDDIO33_EMI, P11 VDDIO_EMI_1, P14 VSSIO_EMI4, P16 VSSIO_EMI5, R10 VSSIO_EMI_11, R12 VSSIO_EMI1, R13 VDDIO_EMI_3_4, R15 VDDIO_EMIQ0, T14 VSSIO_EMI3, U1 VSS23, U17 VSSIO_EMI2
part A text: EMI
part B text: GPMI; SSP0; SSP1; SSP2; SSP3
part C text: I2C0; AUART0; AUART1; AUART2; AUART3; ENET0; PWM; SAIF0; SAIF1; SPDIF
part D text: LCD
part E text: PMU; JTAG; HSADC; LRADC; USB; XTAL

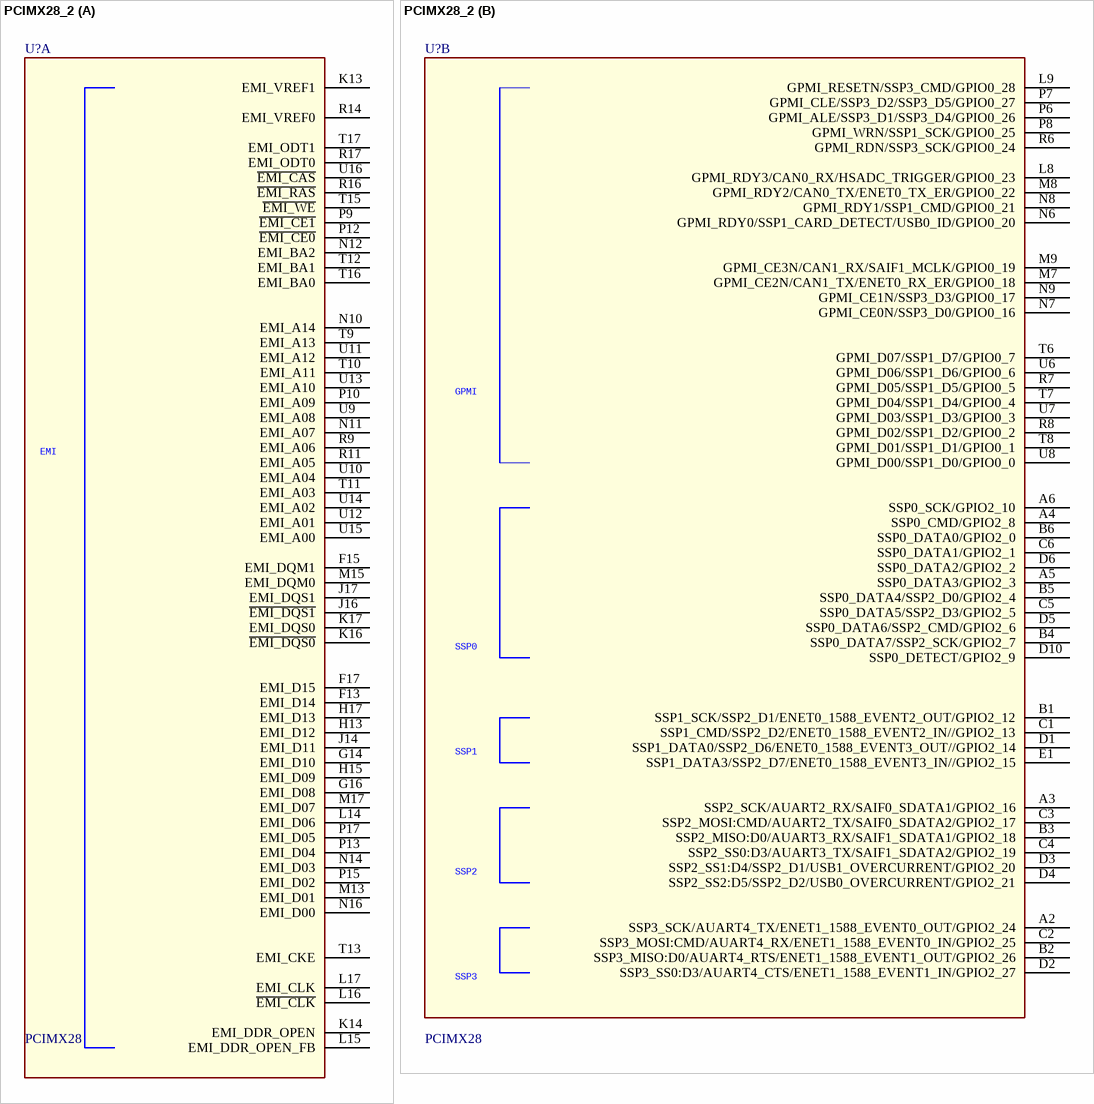
[diagram p6: symbol PCIMX28_2]

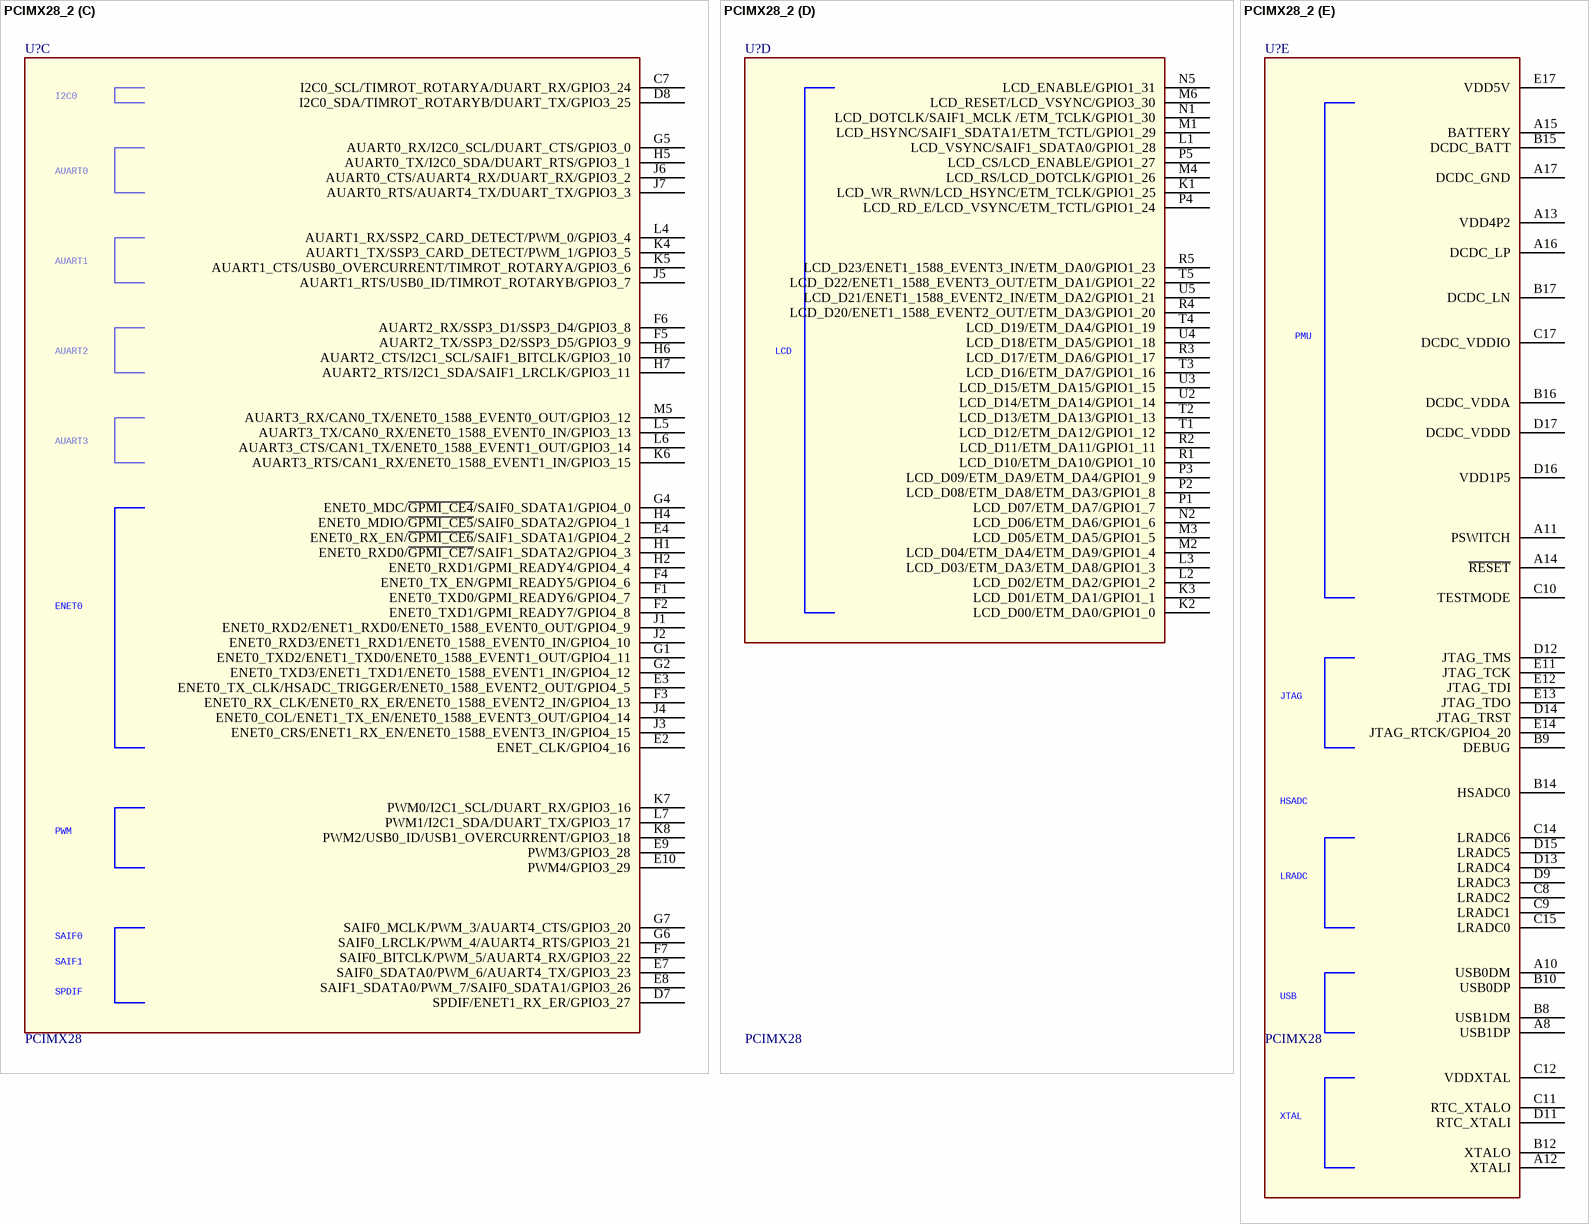
[diagram p7: symbol PCIMX28_2]

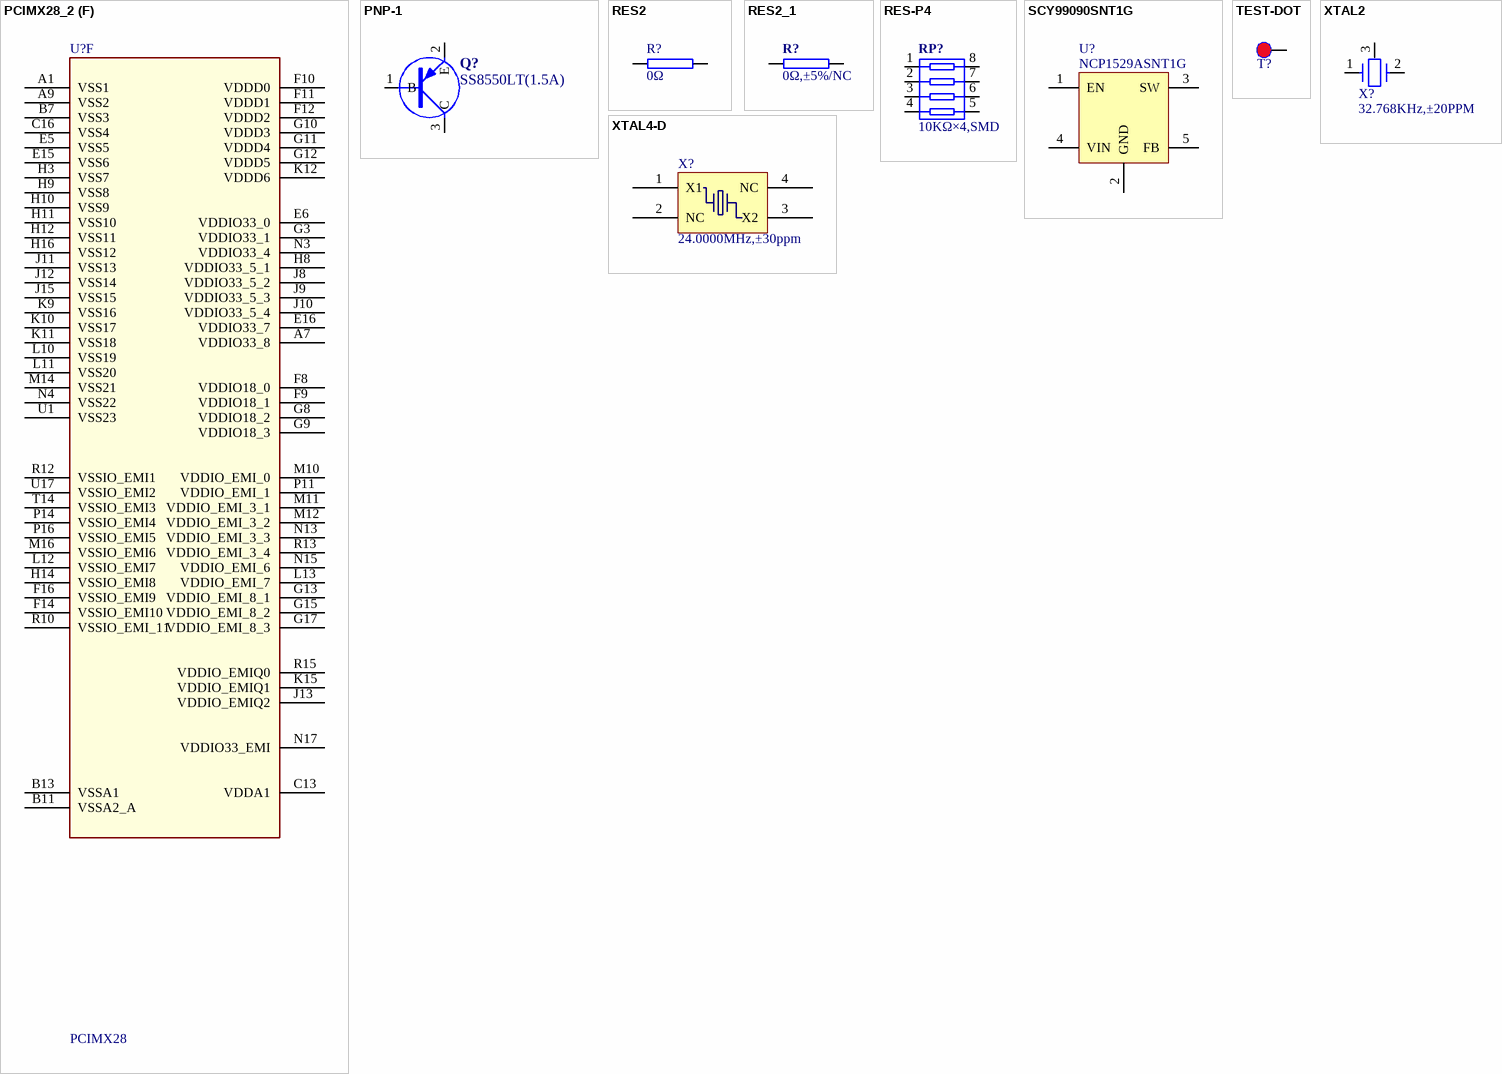
[diagram p8: symbols PCIMX28_2 to XTAL4-D]

## PCIMX28_2
designator U?, comment PCIMX28
footprint MAPBGA-289 (BGA, 81-Leads, Body 14.0x14.0mm,  Pitch 0.80mm)
part A pins: F13 EMI_D14, F15 EMI_DQM1, F17 EMI_D15, G14 EMI_D10, G16 EMI_D08, H13 EMI_D12, H15 EMI_D09, H17 EMI_D13, J14 EMI_D11, J16 ~{EMI_DQS1}, J17 EMI_DQS1, K13 EMI_VREF1, K14 EMI_DDR_OPEN, K16 ~{EMI_DQS0}, K17 EMI_DQS0, L14 EMI_D06, L15 EMI_DDR_OPEN_FB, L16 ~{EMI_CLK}, L17 EMI_CLK, M13 EMI_D01, M15 EMI_DQM0, M17 EMI_D07, N10 EMI_A14, N11 EMI_A07, N12 EMI_BA2, N14 EMI_D03, N16 EMI_D00, P9 ~{EMI_CE1}, P10 EMI_A09, P12 ~{EMI_CE0}, P13 EMI_D04, P15 EMI_D02, P17 EMI_D05, R9 EMI_A06, R11 EMI_A05, R14 EMI_VREF0, R16 ~{EMI_RAS}, R17 EMI_ODT0, T9 EMI_A13, T10 EMI_A11, T11 EMI_A03, T12 EMI_BA1, T13 EMI_CKE, T15 ~{EMI_WE}, T16 EMI_BA0, T17 EMI_ODT1, U9 EMI_A08, U10 EMI_A04, U11 EMI_A12, U12 EMI_A01, U13 EMI_A10, U14 EMI_A02, U15 EMI_A00, U16 ~{EMI_CAS}
part B pins: A2 SSP3_SCK/AUART4_TX/ENET1_1588_EVENT0_OUT/GPIO2_24, A3 SSP2_SCK/AUART2_RX/SAIF0_SDATA1/GPIO2_16, A4 SSP0_CMD/GPIO2_8, A5 SSP0_DATA3/GPIO2_3, A6 SSP0_SCK/GPIO2_10, B1 SSP1_SCK/SSP2_D1/ENET0_1588_EVENT2_OUT/GPIO2_12, B2 SSP3_MISO:D0/AUART4_RTS/ENET1_1588_EVENT1_OUT/GPIO2_26, B3 SSP2_MISO:D0/AUART3_RX/SAIF1_SDATA1/GPIO2_18, B4 SSP0_DATA7/SSP2_SCK/GPIO2_7, B5 SSP0_DATA4/SSP2_D0/GPIO2_4, B6 SSP0_DATA0/GPIO2_0, C1 SSP1_CMD/SSP2_D2/ENET0_1588_EVENT2_IN//GPIO2_13, C2 SSP3_MOSI:CMD/AUART4_RX/ENET1_1588_EVENT0_IN/GPIO2_25, C3 SSP2_MOSI:CMD/AUART2_TX/SAIF0_SDATA2/GPIO2_17, C4 SSP2_SS0:D3/AUART3_TX/SAIF1_SDATA2/GPIO2_19, C5 SSP0_DATA5/SSP2_D3/GPIO2_5, C6 SSP0_DATA1/GPIO2_1, D1 SSP1_DATA0/SSP2_D6/ENET0_1588_EVENT3_OUT//GPIO2_14, D2 SSP3_SS0:D3/AUART4_CTS/ENET1_1588_EVENT1_IN/GPIO2_27, D3 SSP2_SS1:D4/SSP2_D1/USB1_OVERCURRENT/GPIO2_20, D4 SSP2_SS2:D5/SSP2_D2/USB0_OVERCURRENT/GPIO2_21, D5 SSP0_DATA6/SSP2_CMD/GPIO2_6, D6 SSP0_DATA2/GPIO2_2, D10 SSP0_DETECT/GPIO2_9, E1 SSP1_DATA3/SSP2_D7/ENET0_1588_EVENT3_IN//GPIO2_15, L8 GPMI_RDY3/CAN0_RX/HSADC_TRIGGER/GPIO0_23, L9 GPMI_RESETN/SSP3_CMD/GPIO0_28, M7 GPMI_CE2N/CAN1_TX/ENET0_RX_ER/GPIO0_18, M8 GPMI_RDY2/CAN0_TX/ENET0_TX_ER/GPIO0_22, M9 GPMI_CE3N/CAN1_RX/SAIF1_MCLK/GPIO0_19, N6 GPMI_RDY0/SSP1_CARD_DETECT/USB0_ID/GPIO0_20, N7 GPMI_CE0N/SSP3_D0/GPIO0_16, N8 GPMI_RDY1/SSP1_CMD/GPIO0_21, N9 GPMI_CE1N/SSP3_D3/GPIO0_17, P6 GPMI_ALE/SSP3_D1/SSP3_D4/GPIO0_26, P7 GPMI_CLE/SSP3_D2/SSP3_D5/GPIO0_27, P8 GPMI_WRN/SSP1_SCK/GPIO0_25, R6 GPMI_RDN/SSP3_SCK/GPIO0_24, R7 GPMI_D05/SSP1_D5/GPIO0_5, R8 GPMI_D02/SSP1_D2/GPIO0_2, T6 GPMI_D07/SSP1_D7/GPIO0_7, T7 GPMI_D04/SSP1_D4/GPIO0_4, T8 GPMI_D01/SSP1_D1/GPIO0_1, U6 GPMI_D06/SSP1_D6/GPIO0_6, U7 GPMI_D03/SSP1_D3/GPIO0_3, U8 GPMI_D00/SSP1_D0/GPIO0_0
part C pins: C7 I2C0_SCL/TIMROT_ROTARYA/DUART_RX/GPIO3_24, D7 SPDIF/ENET1_RX_ER/GPIO3_27, D8 I2C0_SDA/TIMROT_ROTARYB/DUART_TX/GPIO3_25, E2 ENET_CLK/GPIO4_16, E3 ENET0_TX_CLK/HSADC_TRIGGER/ENET0_1588_EVENT2_OUT/GPIO4_5, E4 ENET0_RX_EN/~{GPMI_CE6}/SAIF1_SDATA1/GPIO4_2, E7 SAIF0_SDATA0/PWM_6/AUART4_TX/GPIO3_23, E8 SAIF1_SDATA0/PWM_7/SAIF0_SDATA1/GPIO3_26, E9 PWM3/GPIO3_28, E10 PWM4/GPIO3_29, F1 ENET0_TXD0/GPMI_READY6/GPIO4_7, F2 ENET0_TXD1/GPMI_READY7/GPIO4_8, F3 ENET0_RX_CLK/ENET0_RX_ER/ENET0_1588_EVENT2_IN/GPIO4_13, F4 ENET0_TX_EN/GPMI_READY5/GPIO4_6, F5 AUART2_TX/SSP3_D2/SSP3_D5/GPIO3_9, F6 AUART2_RX/SSP3_D1/SSP3_D4/GPIO3_8, F7 SAIF0_BITCLK/PWM_5/AUART4_RX/GPIO3_22, G1 ENET0_TXD2/ENET1_TXD0/ENET0_1588_EVENT1_OUT/GPIO4_11, G2 ENET0_TXD3/ENET1_TXD1/ENET0_1588_EVENT1_IN/GPIO4_12, G4 ENET0_MDC/~{GPMI_CE4}/SAIF0_SDATA1/GPIO4_0, G5 AUART0_RX/I2C0_SCL/DUART_CTS/GPIO3_0, G6 SAIF0_LRCLK/PWM_4/AUART4_RTS/GPIO3_21, G7 SAIF0_MCLK/PWM_3/AUART4_CTS/GPIO3_20, H1 ENET0_RXD0/~{GPMI_CE7}/SAIF1_SDATA2/GPIO4_3, H2 ENET0_RXD1/GPMI_READY4/GPIO4_4, H4 ENET0_MDIO/~{GPMI_CE5}/SAIF0_SDATA2/GPIO4_1, H5 AUART0_TX/I2C0_SDA/DUART_RTS/GPIO3_1, H6 AUART2_CTS/I2C1_SCL/SAIF1_BITCLK/GPIO3_10, H7 AUART2_RTS/I2C1_SDA/SAIF1_LRCLK/GPIO3_11, J1 ENET0_RXD2/ENET1_RXD0/ENET0_1588_EVENT0_OUT/GPIO4_9, J2 ENET0_RXD3/ENET1_RXD1/ENET0_1588_EVENT0_IN/GPIO4_10, J3 ENET0_CRS/ENET1_RX_EN/ENET0_1588_EVENT3_IN/GPIO4_15, J4 ENET0_COL/ENET1_TX_EN/ENET0_1588_EVENT3_OUT/GPIO4_14, J5 AUART1_RTS/USB0_ID/TIMROT_ROTARYB/GPIO3_7, J6 AUART0_CTS/AUART4_RX/DUART_RX/GPIO3_2, J7 AUART0_RTS/AUART4_TX/DUART_TX/GPIO3_3, K4 AUART1_TX/SSP3_CARD_DETECT/PWM_1/GPIO3_5, K5 AUART1_CTS/USB0_OVERCURRENT/TIMROT_ROTARYA/GPIO3_6, K6 AUART3_RTS/CAN1_RX/ENET0_1588_EVENT1_IN/GPIO3_15, K7 PWM0/I2C1_SCL/DUART_RX/GPIO3_16, K8 PWM2/USB0_ID/USB1_OVERCURRENT/GPIO3_18, L4 AUART1_RX/SSP2_CARD_DETECT/PWM_0/GPIO3_4, L5 AUART3_TX/CAN0_RX/ENET0_1588_EVENT0_IN/GPIO3_13, L6 AUART3_CTS/CAN1_TX/ENET0_1588_EVENT1_OUT/GPIO3_14, L7 PWM1/I2C1_SDA/DUART_TX/GPIO3_17, M5 AUART3_RX/CAN0_TX/ENET0_1588_EVENT0_OUT/GPIO3_12
part D pins: K1 LCD_WR_RWN/LCD_HSYNC/ETM_TCLK/GPIO1_25, K2 LCD_D00/ETM_DA0/GPIO1_0, K3 LCD_D01/ETM_DA1/GPIO1_1, L1 LCD_VSYNC/SAIF1_SDATA0/GPIO1_28, L2 LCD_D02/ETM_DA2/GPIO1_2, L3 LCD_D03/ETM_DA3/ETM_DA8/GPIO1_3, M1 LCD_HSYNC/SAIF1_SDATA1/ETM_TCTL/GPIO1_29, M2 LCD_D04/ETM_DA4/ETM_DA9/GPIO1_4, M3 LCD_D05/ETM_DA5/GPIO1_5, M4 LCD_RS/LCD_DOTCLK/GPIO1_26, M6 LCD_RESET/LCD_VSYNC/GPIO3_30, N1 LCD_DOTCLK/SAIF1_MCLK /ETM_TCLK/GPIO1_30, N2 LCD_D06/ETM_DA6/GPIO1_6, N5 LCD_ENABLE/GPIO1_31, P1 LCD_D07/ETM_DA7/GPIO1_7, P2 LCD_D08/ETM_DA8/ETM_DA3/GPIO1_8, P3 LCD_D09/ETM_DA9/ETM_DA4/GPIO1_9, P4 LCD_RD_E/LCD_VSYNC/ETM_TCTL/GPIO1_24, P5 LCD_CS/LCD_ENABLE/GPIO1_27, R1 LCD_D10/ETM_DA10/GPIO1_10, R2 LCD_D11/ETM_DA11/GPIO1_11, R3 LCD_D17/ETM_DA6/GPIO1_17, R4 LCD_D20/ENET1_1588_EVENT2_OUT/ETM_DA3/GPIO1_20, R5 LCD_D23/ENET1_1588_EVENT3_IN/ETM_DA0/GPIO1_23, T1 LCD_D12/ETM_DA12/GPIO1_12, T2 LCD_D13/ETM_DA13/GPIO1_13, T3 LCD_D16/ETM_DA7/GPIO1_16, T4 LCD_D19/ETM_DA4/GPIO1_19, T5 LCD_D22/ENET1_1588_EVENT3_OUT/ETM_DA1/GPIO1_22, U2 LCD_D14/ETM_DA14/GPIO1_14, U3 LCD_D15/ETM_DA15/GPIO1_15, U4 LCD_D18/ETM_DA5/GPIO1_18, U5 LCD_D21/ENET1_1588_EVENT2_IN/ETM_DA2/GPIO1_21
part E pins: A8 USB1DP, A10 USB0DM, A11 PSWITCH, A12 XTALI, A13 VDD4P2, A14 ~{RESET}, A15 BATTERY, A16 DCDC_LP, A17 DCDC_GND, B8 USB1DM, B9 DEBUG, B10 USB0DP, B12 XTALO, B14 HSADC0, B15 DCDC_BATT, B16 DCDC_VDDA, B17 DCDC_LN, C8 LRADC2, C9 LRADC1, C10 TESTMODE, C11 RTC_XTALO, C12 VDDXTAL, C14 LRADC6, C15 LRADC0, C17 DCDC_VDDIO, D9 LRADC3, D11 RTC_XTALI, D12 JTAG_TMS, D13 LRADC4, D14 JTAG_TRST, D15 LRADC5, D16 VDD1P5, D17 DCDC_VDDD, E11 JTAG_TCK, E12 JTAG_TDI, E13 JTAG_TDO, E14 JTAG_RTCK/GPIO4_20, E17 VDD5V
part F pins: A1 VSS1, A7 VDDIO33_8, A9 VSS2, B7 VSS3, B11 VSSA2_A, B13 VSSA1, C13 VDDA1, C16 VSS4, E5 VSS5, E6 VDDIO33_0, E15 VSS6, E16 VDDIO33_7, F8 VDDIO18_0, F9 VDDIO18_1, F10 VDDD0, F11 VDDD1, F12 VDDD2, F14 VSSIO_EMI10, F16 VSSIO_EMI9, G3 VDDIO33_1, G8 VDDIO18_2, G9 VDDIO18_3, G10 VDDD3, G11 VDDD4, G12 VDDD5, G13 VDDIO_EMI_8_1, G15 VDDIO_EMI_8_2, G17 VDDIO_EMI_8_3, H3 VSS7, H8 VDDIO33_5_1, H9 VSS8, H10 VSS9, H11 VSS10, H12 VSS11, H14 VSSIO_EMI8, H16 VSS12, J8 VDDIO33_5_2, J9 VDDIO33_5_3, J10 VDDIO33_5_4, J11 VSS13, J12 VSS14, J13 VDDIO_EMIQ2, J15 VSS15, K9 VSS16, K10 VSS17, K11 VSS18, K12 VDDD6, K15 VDDIO_EMIQ1, L10 VSS19, L11 VSS20, L12 VSSIO_EMI7, L13 VDDIO_EMI_7, M10 VDDIO_EMI_0, M11 VDDIO_EMI_3_1, M12 VDDIO_EMI_3_2, M14 VSS21, M16 VSSIO_EMI6, N3 VDDIO33_4, N4 VSS22, N13 VDDIO_EMI_3_3, N15 VDDIO_EMI_6, N17 VDDIO33_EMI, P11 VDDIO_EMI_1, P14 VSSIO_EMI4, P16 VSSIO_EMI5, R10 VSSIO_EMI_11, R12 VSSIO_EMI1, R13 VDDIO_EMI_3_4, R15 VDDIO_EMIQ0, T14 VSSIO_EMI3, U1 VSS23, U17 VSSIO_EMI2
part A text: EMI
part B text: GPMI; SSP0; SSP1; SSP2; SSP3
part C text: I2C0; AUART0; AUART1; AUART2; AUART3; ENET0; PWM; SAIF0; SAIF1; SPDIF
part D text: LCD
part E text: PMU; JTAG; HSADC; LRADC; USB; XTAL

## PNP-1
designator Q?  value SS8550LT(1.5A)  (hidden comment: PNP-1)
SS8550LT(1.5A),SOT-23,江苏长电,RoHS; 物料代码: 1.04.09.0002; 名称: 三极管; 设备封装名称: SOT-23_SS8550LT; 贴片和直插: SMT; 封装: SOT-23; 厂商: 江苏长电; RoHS: RoHS; 型号: SS8550LT(1.5A); ComponentLink1Description: ErpDataInfo; ComponentLink1URL: http://erp.zlgmcu.com/ErpExt/ErpData/ListMateriel.aspx?pkey=1.04.09.0002
footprint SOT-23
pins: 1 B, 2 E, 3 C
2 alternate drawings of the same symbol

## RES2
designator R?, comment 0Ω
0Ω,0603,*,RoHS; 物料代码: 1.01.01.0001; 名称: 电阻; 封装: 0603; 设备封装名称: R0603_0R; 贴片和直插: SMT; 器件优选方案: 优先选用; RoHS: RoHS; 型号: 0Ω; ComponentLink1Description: ErpDataInfo; ComponentLink1URL: http://erp.zlgmcu.com/ErpExt/ErpData/ListMateriel.aspx?pkey=1.01.01.0001; Value: 0Ω
footprint 0603R
pins: 1, 2
2 alternate drawings of the same symbol

## RES2_1
designator R?, comment 0Ω,±5%/NC
0Ω,±5%,0402,RALEC,RoHS; 物料代码: 1.01.17.0004; 名称: 电阻; 封装: 0402; 设备封装名称: R0402_0R; 型号: 0Ω,±5%; 贴片和直插: SMT; 厂商: RALEC; RoHS: RoHS; ComponentLink1Description: ErpDataInfo; ComponentLink1URL: http://erp.zlgmcu.com/ErpExt/ErpData/ListMateriel.aspx?pkey=1.01.17.0004; Value: 0Ω,±5%/NC
footprint 0402R
pins: 1, 2
2 alternate drawings of the same symbol

## RES-P4
designator RP?, comment 10KΩ×4,SMD
10KΩ×4,SMD,PZ-4-0.8,RoHS; 物料代码: 1.01.04.0004; 名称: 网络电阻; 设备封装名称: 10K_4_0603; 贴片和直插: SMT; 封装: PZ-4-0.8; RoHS: RoHS; 型号: 10KΩ×4,SMD; ComponentLink1Description: ErpDataInfo; ComponentLink1URL: http://erp.zlgmcu.com/ErpExt/ErpData/ListMateriel.aspx?pkey=1.01.04.0004; Value: 10KΩ×4,SMD
footprint 0603RA
pins: 1, 2, 3, 4, 5, 6, 7, 8
2 alternate drawings of the same symbol

## SCY99090SNT1G
designator U?  value NCP1529ASNT1G  (hidden comment: SCY99090SNT1G)
NCP1529ASNT1G,TSOP-5,ON,RoHS; 物料代码: 1.05.09.0091; 名称: IC; 设备封装名称: TSOP-5_NCP1529ASNT1G; 贴片和直插: SMT; 封装: TSOP-5; 厂商: ON; RoHS: RoHS; 型号: NCP1529ASNT1G; ComponentLink1Description: ErpDataInfo; ComponentLink1URL: http://erp.zlgmcu.com/ErpExt/ErpData/ListMateriel.aspx?pkey=1.05.09.0091
footprint SOT-23-5
pins: 1 EN, 2 GND, 3 SW, 4 VIN, 5 FB

## TEST-DOT
designator T?, comment 3.3V  (value not drawn)
footprint PAD-40 (TEST-P)
footprint PAD-50 (TEST-P)
footprint PAD-25/40
footprint PAD-35/50
pins: 1

## XTAL2
designator X?  value 32.768KHz,±20PPM  (hidden comment: XTAL2)
32.768KHz,±20PPM,12.5PF,Ф2×6,工业级,RoHS; 物料代码: 1.07.02.0025; 名称: 晶体; 贴片和直插: SMT; 设备封装名称: 32.768KHz,±20PPM,12.5PF,Ф2×6,工业级; RoHS: RoHS; 型号: 32.768KHz,±20PPM,12.5PF,Ф2×6,工业级; ComponentLink1Description: ErpDataInfo; ComponentLink1URL: http://erp.zlgmcu.com/ErpExt/ErpData/ListMateriel.aspx?pkey=1.07.02.0025
footprint XTAL2-C-SM
pins: 1, 2, 3 G

## XTAL4-D
designator X?  value 24.0000MHz,±30ppm  (hidden comment: XTAL4-D)
24.0000MHz,±30ppm,20pF,-40~85℃,±30ppm,SMD5032,*,RoHS; 物料代码: 1.07.01.0033; 名称: 晶体; 贴片和直插: SMT; 封装: SMD5032; RoHS: RoHS; 型号: 24.0000MHz,±30ppm,20pF,-40~85℃,±30ppm; ComponentLink1Description: ErpDataInfo; ComponentLink1URL: http://erp.zlgmcu.com/ErpExt/ErpData/ListMateriel.aspx?pkey=1.07.01.0033
footprint XTAL4-3.2X2.5
footprint XTAL4-5X3B (XTAL-X53F)
pins: 1 X1, 2 NC, 3 X2, 4 NC